# Altium schematic symbol library LIBRARY_SCH.SCHLIB: 713 symbols (part 3 of 6)
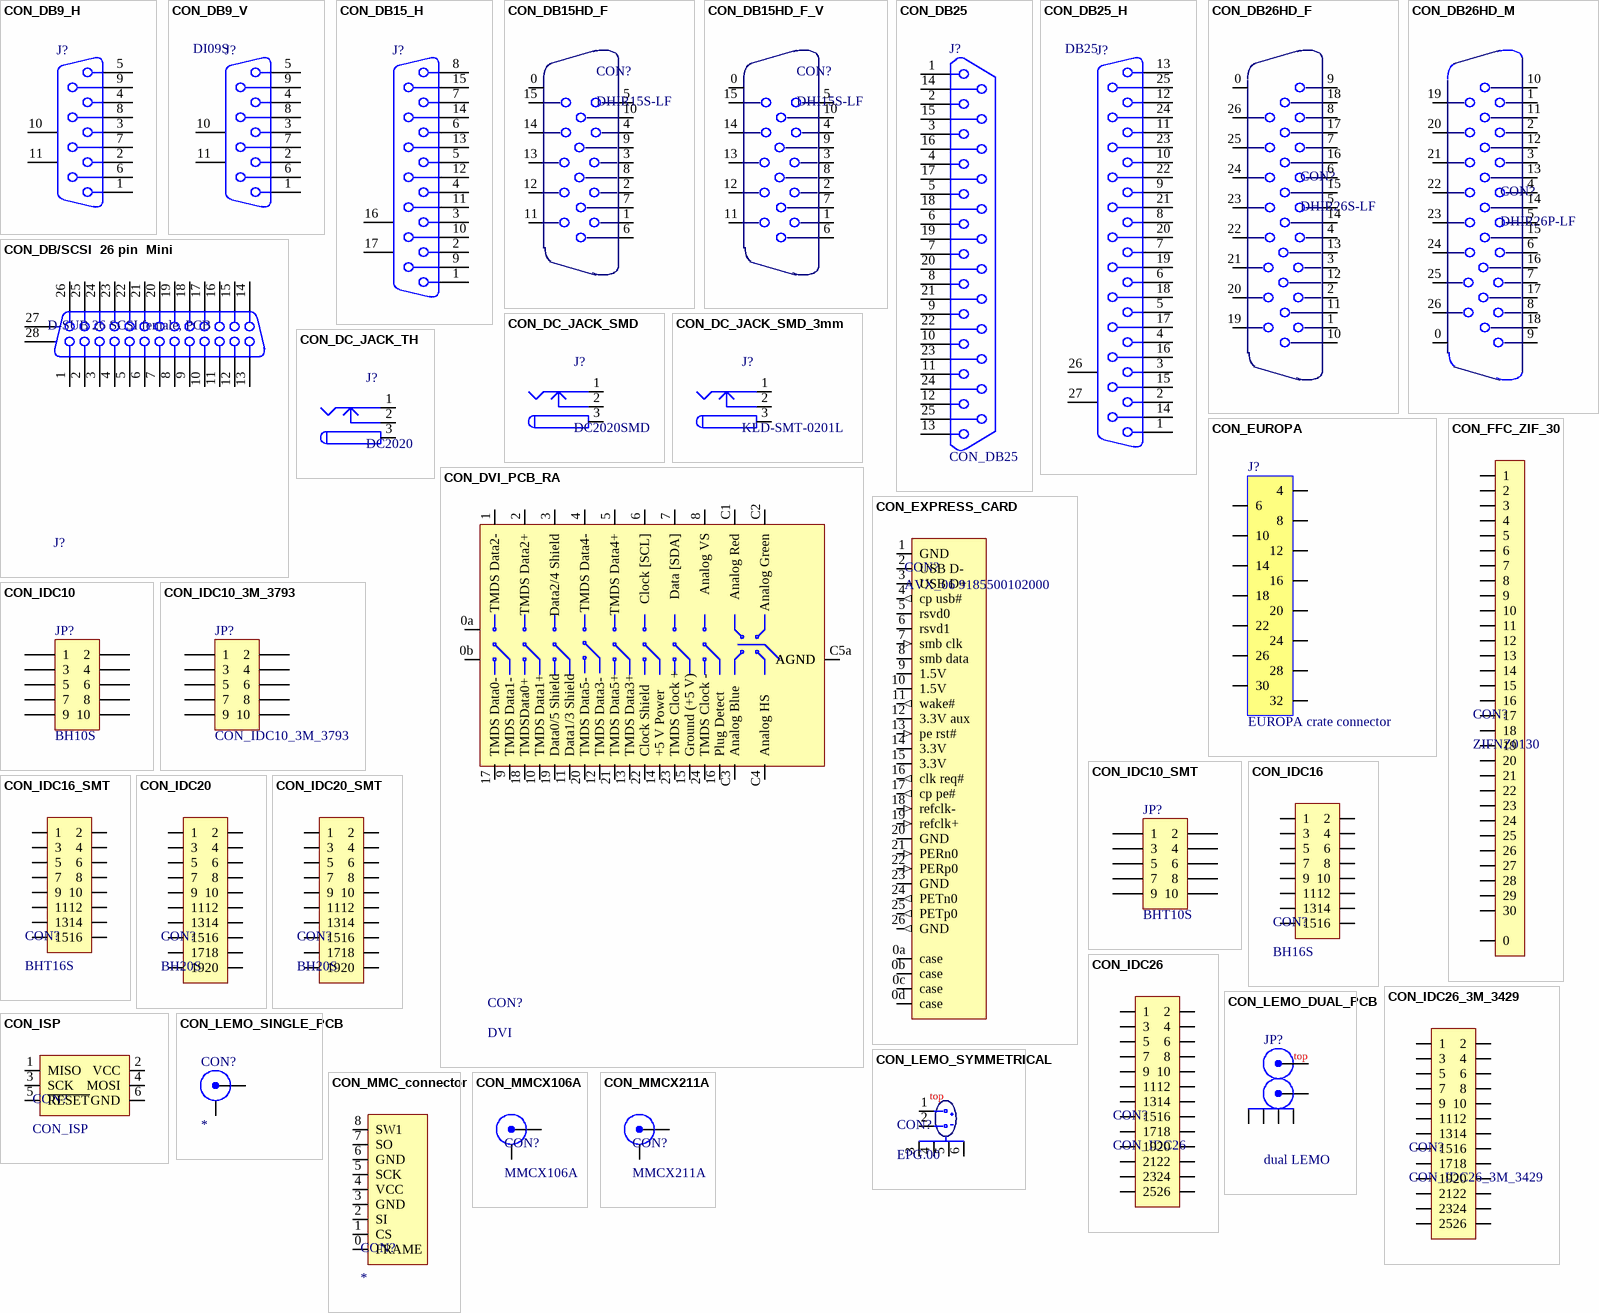
[diagram p40: symbols CON_DB9_H to CON_MMCX211A]

## CON_IDC20
designator CON?, comment BH20S
Maritex BH20S
footprint IDC_20_male (IDC 2x10 PCB male connector)
pins: 1, 2, 3, 4, 5, 6, 7, 8, 9, 10, 11, 12, 13, 14, 15, 16, 17, 18, 19, 20

## CON_IDC20_SMT
designator CON?, comment BH20S
Maritex BH20S
footprint BHT20S (Footprint not found)
pins: 1, 2, 3, 4, 5, 6, 7, 8, 9, 10, 11, 12, 13, 14, 15, 16, 17, 18, 19, 20

## CON_IDC26
designator CON?
Maritex BH26S
footprint IDC_26_male (IDC 2x13 PCB male connector)
pins: 1, 2, 3, 4, 5, 6, 7, 8, 9, 10, 11, 12, 13, 14, 15, 16, 17, 18, 19, 20, 21, 22, 23, 24, 25, 26

## CON_IDC26_3M_3429
designator CON?
26 pin Wall header
footprint IDC26_3M_3429
pins: 1, 2, 3, 4, 5, 6, 7, 8, 9, 10, 11, 12, 13, 14, 15, 16, 17, 18, 19, 20, 21, 22, 23, 24, 25, 26

## CON_ISP
designator CON?
footprint HEADER3x2
footprint PBTD6S
pins: 1 MISO, 2 VCC, 3 SCK, 4 MOSI, 5 ~{RESET}, 6 GND

## CON_LEMO_DUAL_PCB
designator JP?, comment dual LEMO
Dual PCB Lemo Connector; Text Field1: Lemo
footprint LEMO_DUAL_PCB
pins: 1, 2, 3, 4, 5, 6
2 alternate drawings of the same symbol
text: top

## CON_LEMO_SINGLE_PCB
designator CON?
Single PCB Lemo Connector; Text Field1: Lemo
footprint LEMO_SINGLE_PCB
footprint LEMO_VERTICAL_PCB
pins: 1, 2a 2, 2b 2 hidden, 2c 2 hidden, 2d 2 hidden
2 alternate drawings of the same symbol

## CON_LEMO_SYMMETRICAL
designator CON?, comment EPG.00
footprint LEMO_SYM_PCB
pins: 1, 2, 3, 4, 5, 6
text: top

## CON_MMC_connector
designator CON?
footprint MMC_CARD-MMCE715B (MMC card socket Maritex)
footprint MMC_FLS007-2323 (MMC card conenctor Yamaichi)
pins: 0 FRAME, 1 CS, 2 SI, 3 GND, 4 VCC, 5 SCK, 6 GND, 7 SO, 8 SW1

## CON_MMCX106A
designator CON?, comment MMCX106A
RF coax conenctor (Maritex)
footprint CON_MMCX106A (RF coax connector)
pins: 1, 2a 2, 2b 2, 2c 2, 2d 2

## CON_MMCX211A
designator CON?, comment MMCX211A
RF coax conenctor (Maritex)
footprint CON_MMCX211A
pins: 1, 2a 2, 2b 2, 2c 2, 2d 2

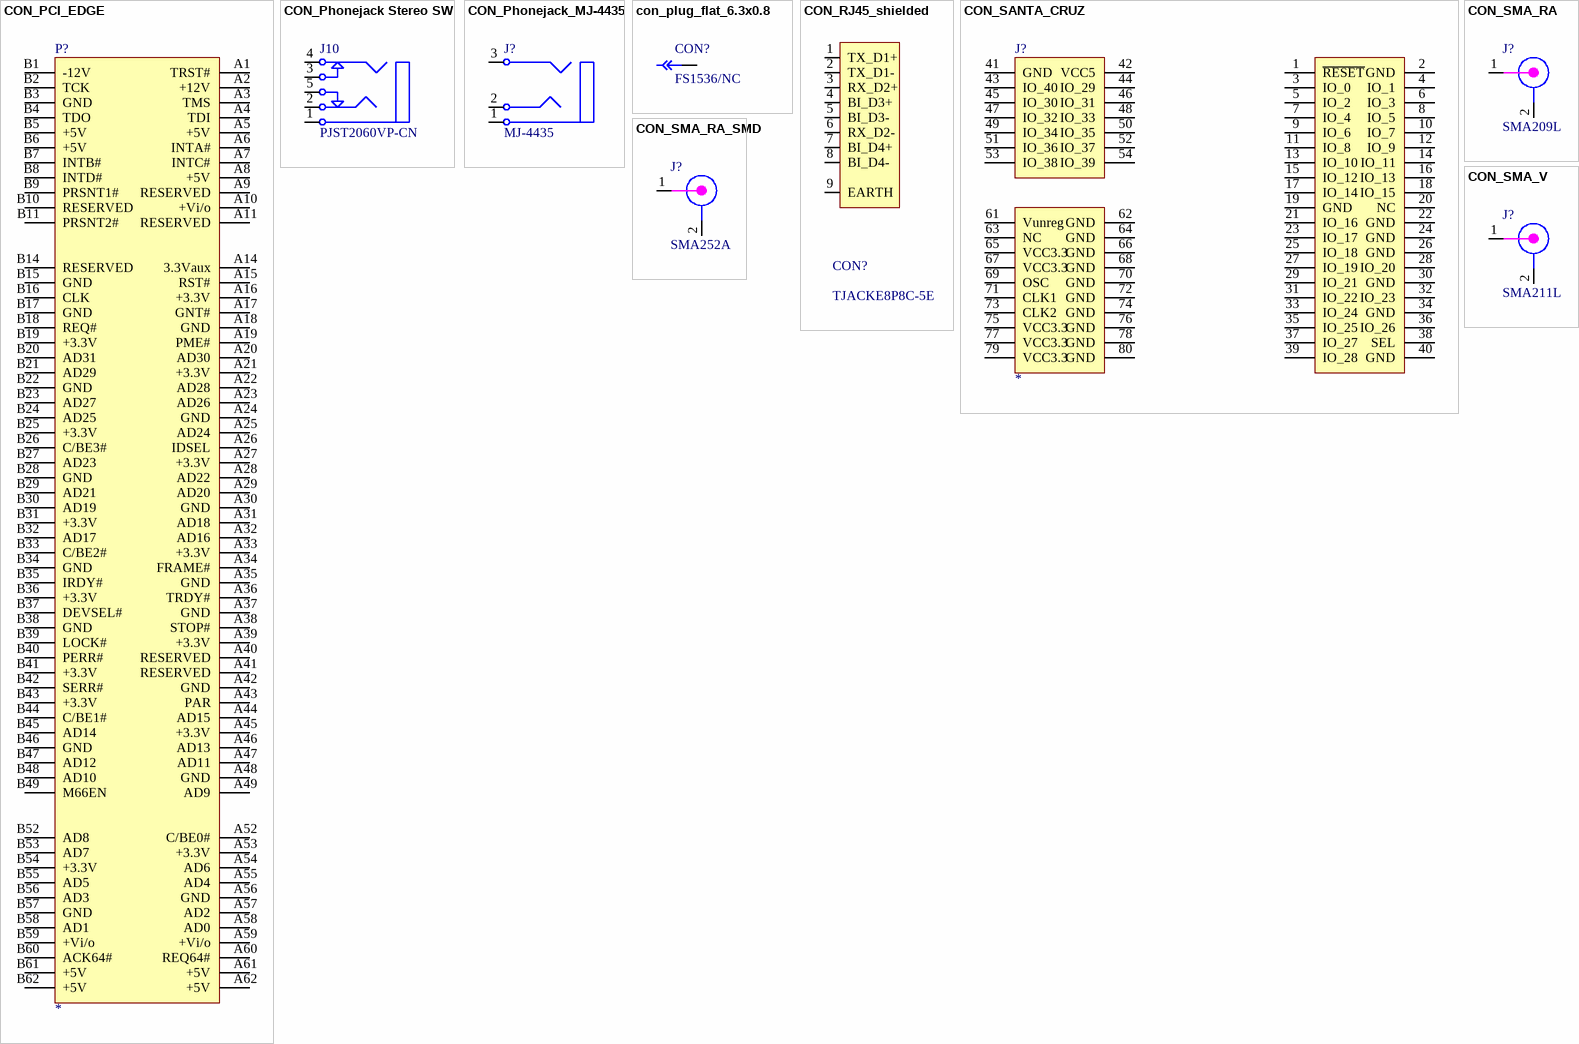
[diagram p14: symbols CON_PCI_EDGE to CON_SMA_V]

## CON_PCI_EDGE
designator P?
footprint PCI3V32BIT
footprint PCI_CON
pins: A1 TRST#, A2 +12V, A3 TMS, A4 TDI, A5 +5V, A6 INTA#, A7 INTC#, A8 +5V, A9 RESERVED, A10 +Vi/o, A11 RESERVED, A14 3.3Vaux, A15 RST#, A16 +3.3V, A17 GNT#, A18 GND, A19 PME#, A20 AD30, A21 +3.3V, A22 AD28, A23 AD26, A24 GND, A25 AD24, A26 IDSEL, A27 +3.3V, A28 AD22, A29 AD20, A30 GND, A31 AD18, A32 AD16, A33 +3.3V, A34 FRAME#, A35 GND, A36 TRDY#, A37 GND, A38 STOP#, A39 +3.3V, A40 RESERVED, A41 RESERVED, A42 GND, A43 PAR, A44 AD15, A45 +3.3V, A46 AD13, A47 AD11, A48 GND, A49 AD9, A52 C/BE0#, A53 +3.3V, A54 AD6, A55 AD4, A56 GND, A57 AD2, A58 AD0, A59 +Vi/o, A60 REQ64#, A61 +5V, A62 +5V, B1 -12V, B2 TCK, B3 GND, B4 TDO, B5 +5V, B6 +5V, B7 INTB#, B8 INTD#, B9 PRSNT1#, B10 RESERVED, B11 PRSNT2#, B14 RESERVED, B15 GND, B16 CLK, B17 GND, B18 REQ#, B19 +3.3V, B20 AD31, B21 AD29, B22 GND, B23 AD27, B24 AD25, B25 +3.3V, B26 C/BE3#, B27 AD23, B28 GND, B29 AD21, B30 AD19, B31 +3.3V, B32 AD17, B33 C/BE2#, B34 GND, B35 IRDY#, B36 +3.3V, B37 DEVSEL#, B38 GND, B39 LOCK#, B40 PERR#, B41 +3.3V, B42 SERR#, B43 +3.3V, B44 C/BE1#, B45 AD14, B46 GND, B47 AD12, B48 AD10, B49 M66EN, B52 AD8, B53 AD7, B54 +3.3V, B55 AD5, B56 AD3, B57 GND, B58 AD1, B59 +Vi/o, B60 ACK64#, B61 +5V, B62 +5V
2 alternate drawings of the same symbol

## CON_Phonejack Stereo SW
designator J10, comment PJST2060VP-CN
3-Conductor Jack with 2 break contacts (normals) and 2 auxiliary make contacts; Revision 1: 17-Jul-2002: Re-released for DXP Platform.; Revision 2: 17-Dec-2003: PCB Footprint replaced.; Published: 5-Jan-2004; Datasheet: Latest Revision: 07-Mar-2000; Publisher: Altium Limited
footprint ST-3150-5N (Connector; Stereo Jack, 3.5mm, 5 Position)
signal-integrity model Connector
pins: 1, 1A, 1B, 2, 2A, 2B, 3, 3A, 3B, 4, 4A, 4B, 5, 5A, 5B

## CON_Phonejack_MJ-4435
designator J?, comment MJ-4435
3-Conductor Jack (Maritex); Revision 1: 17-Jul-2002: Re-released for DXP Platform.; Revision 2: 17-Dec-2003: PCB Footprint replaced.; Published: 5-Jan-2004; Datasheet: Latest Revision: 07-Mar-2000; Publisher: Altium Limited
footprint CON_MJ-4435 (stereo jack)
pins: 1, 1A, 2, 2A, 3, 3A

## con_plug_flat_6.3x0.8
designator CON?, comment FS1536/NC
flat connector 6.3x8mm (TME)
footprint con_plug_flat_6.3x0.8
pins: 1 GND, 1a GND

## CON_RJ45_shielded
designator CON?, comment TJACKE8P8C-5E
RJ 45 connector (Maritex)
footprint TJACKE8P8C-5E
pins: 1 TX_D1+, 2 TX_D1-, 3 RX_D2+, 4 BI_D3+, 5 BI_D3-, 6 RX_D2-, 7 BI_D4+, 8 BI_D4-, 9 EARTH, 9b 9, 9c 9, 9d 9

## CON_SANTA_CRUZ
designator J?
Altera Nios dev board connector
footprint santa_cruz
pins: 1 ~{RESET}, 2 GND, 3 IO_0, 4 IO_1, 5 IO_2, 6 IO_3, 7 IO_4, 8 IO_5, 9 IO_6, 10 IO_7, 11 IO_8, 12 IO_9, 13 IO_10, 14 IO_11, 15 IO_12, 16 IO_13, 17 IO_14, 18 IO_15, 19 GND, 20 NC, 21 IO_16, 22 GND, 23 IO_17, 24 GND, 25 IO_18, 26 GND, 27 IO_19, 28 IO_20, 29 IO_21, 30 GND, 31 IO_22, 32 IO_23, 33 IO_24, 34 GND, 35 IO_25, 36 IO_26, 37 IO_27, 38 SEL, 39 IO_28, 40 GND, 41 GND, 42 VCC5, 43 IO_40, 44 IO_29, 45 IO_30, 46 IO_31, 47 IO_32, 48 IO_33, 49 IO_34, 50 IO_35, 51 IO_36, 52 IO_37, 53 IO_38, 54 IO_39, 61 Vunreg, 62 GND, 63 NC, 64 GND, 65 VCC3.3, 66 GND, 67 VCC3.3, 68 GND, 69 OSC, 70 GND, 71 CLK1, 72 GND, 73 CLK2, 74 GND, 75 VCC3.3, 76 GND, 77 VCC3.3, 78 GND, 79 VCC3.3, 80 GND
2 alternate drawings of the same symbol

## CON_SMA_RA
designator J?, comment SMA209L
SMA (Maritex)
footprint SMA_RA (Footprint not found)
pins: 1, 2, 2a GND, 2b GND, 2c GND
2 alternate drawings of the same symbol

## CON_SMA_RA_SMD
designator J?, comment SMA252A
SMA (Maritex)
footprint SMA252A (Footprint not found)
pins: 1, 2, 2a GND, 2b GND, 2c GND
2 alternate drawings of the same symbol

## CON_SMA_V
designator J?, comment SMA211L
SMA (Maritex)
footprint SMA_V
pins: 1, 2, 2a GND, 2b GND, 2c GND
2 alternate drawings of the same symbol

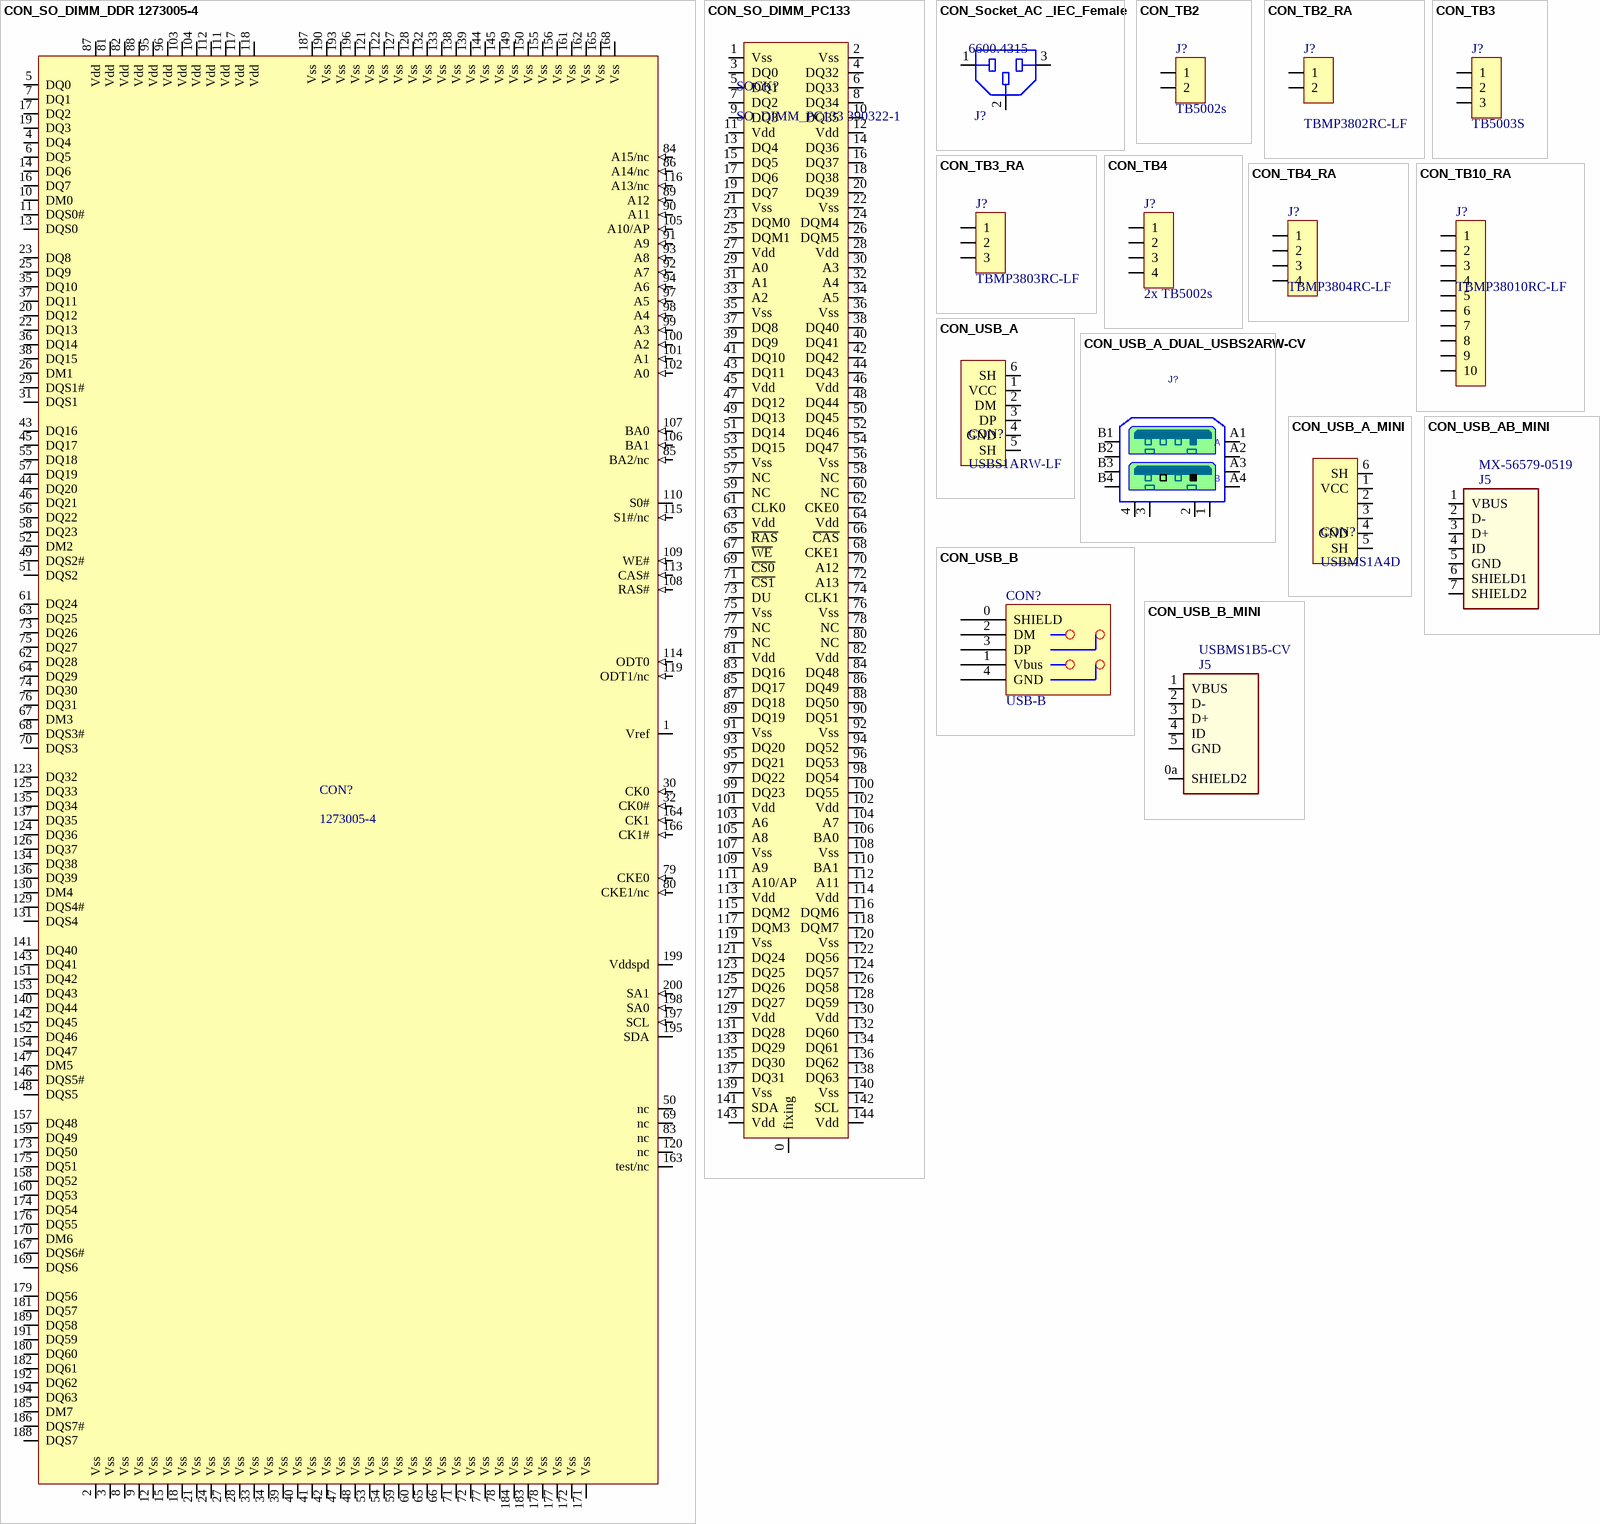
[diagram p15: symbols CON_SO_DIMM_DDR 1273005-4 to CON_USB_B_MINI]

## CON_SO_DIMM_DDR 1273005-4
designator CON?, comment 1273005-4
pins: 1 Vref (power), 2 Vss (power), 3 Vss (power), 4 DQ4 (io), 5 DQ0 (io), 6 DQ5 (io), 7 DQ1 (io), 8 Vss (power), 9 Vss (power), 10 DM0 (io), 11 DQS0# (io), 12 Vss (power), 13 DQS0 (io), 14 DQ6 (io), 15 Vss (power), 16 DQ7 (io), 17 DQ2 (io), 18 Vss (power), 19 DQ3 (io), 20 DQ12 (io), 21 Vss (power), 22 DQ13 (io), 23 DQ8 (io), 24 Vss (power), 25 DQ9 (io), 26 DM1 (io), 27 Vss (power), 28 Vss (power), 29 DQS1# (io), 30 CK0 (in), 31 DQS1 (io), 32 CK0# (in), 33 Vss (power), 34 Vss (power), 35 DQ10 (io), 36 DQ14 (io), 37 DQ11 (io), 38 DQ15 (io), 39 Vss (power), 40 Vss (power), 41 Vss (power), 42 Vss (power), 43 DQ16 (io), 44 DQ20 (io), 45 DQ17 (io), 46 DQ21 (io), 47 Vss (power), 48 Vss (power), 49 DQS2# (io), 50 nc, 51 DQS2 (io), 52 DM2 (io), 53 Vss (power), 54 Vss (power), 55 DQ18 (io), 56 DQ22 (io), 57 DQ19 (io), 58 DQ23 (io), 59 Vss (power), 60 Vss (power), 61 DQ24 (io), 62 DQ28 (io), 63 DQ25 (io), 64 DQ29 (io), 65 Vss (power), 66 Vss (power), 67 DM3 (io), 68 DQS3# (io), 69 nc, 70 DQS3 (io), 71 Vss (power), 72 Vss (power), 73 DQ26 (io), 74 DQ30 (io), 75 DQ27 (io), 76 DQ31 (io), 77 Vss (power), 78 Vss (power), 79 CKE0 (in), 80 CKE1/nc (in), 81 Vdd (power), 82 Vdd (power), 83 nc, 84 A15/nc (in), 85 BA2/nc (in), 86 A14/nc (in), 87 Vdd (power), 88 Vdd (power), 89 A12 (in), 90 A11 (in), 91 A9 (in), 92 A7 (in), 93 A8 (in), 94 A6 (in), 95 Vdd (power), 96 Vdd (power), 97 A5 (in), 98 A4 (in), 99 A3 (in), 100 A2 (in), 101 A1 (in), 102 A0 (in), 103 Vdd (power), 104 Vdd (power), 105 A10/AP (in), 106 BA1 (in), 107 BA0 (in), 108 RAS# (in), 109 WE# (in), 110 S0# (io), 111 Vdd (power), 112 Vdd (power), 113 CAS# (in), 114 ODT0 (in), 115 S1#/nc (in), 116 A13/nc (in), 117 Vdd (power), 118 Vdd (power), 119 ODT1/nc (in), 120 nc, 121 Vss (power), 122 Vss (power), 123 DQ32 (io), 124 DQ36 (io), 125 DQ33 (io), 126 DQ37 (io), 127 Vss (power), 128 Vss (power), 129 DQS4# (io), 130 DM4 (io), 131 DQS4 (io), 132 Vss (power), 133 Vss (power), 134 DQ38 (io), 135 DQ34 (io), 136 DQ39 (io), 137 DQ35 (io), 138 Vss (power), 139 Vss (power), 140 DQ44 (io), 141 DQ40 (io), 142 DQ45 (io), 143 DQ41 (io), 144 Vss (power), 145 Vss (power), 146 DQS5# (io), 147 DM5 (io), 148 DQS5 (io), 149 Vss (power), 150 Vss (power), 151 DQ42 (io), 152 DQ46 (io), 153 DQ43 (io), 154 DQ47 (io), 155 Vss (power), 156 Vss (power), 157 DQ48 (io), 158 DQ52 (io), 159 DQ49 (io), 160 DQ53 (io), 161 Vss (power), 162 Vss (power), 163 test/nc, 164 CK1 (in), 165 Vss (power), 166 CK1# (in), 167 DQS6# (io), 168 Vss (power), 169 DQS6 (io), 170 DM6 (io), 171 Vss (power), 172 Vss (power), 173 DQ50 (io), 174 DQ54 (io), 175 DQ51 (io), 176 DQ55 (io), 177 Vss (power), 178 Vss (power), 179 DQ56 (io), 180 DQ60 (io), 181 DQ57 (io), 182 DQ61 (io), 183 Vss (power), 184 Vss (power), 185 DM7 (io), 186 DQS7# (io), 187 Vss (power), 188 DQS7 (io), 189 DQ58 (io), 190 Vss (power), 191 DQ59 (io), 192 DQ62 (io), 193 Vss (power), 194 DQ63 (io), 195 SDA (io), 196 Vss (power), 197 SCL (in), 198 SA0 (in), 199 Vddspd (power), 200 SA1 (in)

## CON_SO_DIMM_PC133
designator SOCK?, comment SO_DIMM_PC133 390322-1
SO-DIMM SDRAM memory socket, high, right nagle
footprint SO_DIMM_AMP_3V (SO dimm SMT cosket 3.3V version AMP: 353871)
pins: 0 fixing, 1 Vss, 2 Vss, 3 DQ0, 4 DQ32, 5 DQ1, 6 DQ33, 7 DQ2, 8 DQ34, 9 DQ3, 10 DQ35, 11 Vdd, 12 Vdd, 13 DQ4, 14 DQ36, 15 DQ5, 16 DQ37, 17 DQ6, 18 DQ38, 19 DQ7, 20 DQ39, 21 Vss, 22 Vss, 23 DQM0, 24 DQM4, 25 DQM1, 26 DQM5, 27 Vdd, 28 Vdd, 29 A0, 30 A3, 31 A1, 32 A4, 33 A2, 34 A5, 35 Vss, 36 Vss, 37 DQ8, 38 DQ40, 39 DQ9, 40 DQ41, 41 DQ10, 42 DQ42, 43 DQ11, 44 DQ43, 45 Vdd, 46 Vdd, 47 DQ12, 48 DQ44, 49 DQ13, 50 DQ45, 51 DQ14, 52 DQ46, 53 DQ15, 54 DQ47, 55 Vss, 56 Vss, 57 NC, 58 NC, 59 NC, 60 NC, 61 CLK0, 62 CKE0, 63 Vdd, 64 Vdd, 65 ~{RAS}, 66 ~{CAS}, 67 ~{WE}, 68 CKE1, 69 ~{CS0}, 70 A12, 71 ~{CS1}, 72 A13, 73 DU, 74 CLK1, 75 Vss, 76 Vss, 77 NC, 78 NC, 79 NC, 80 NC, 81 Vdd, 82 Vdd, 83 DQ16, 84 DQ48, 85 DQ17, 86 DQ49, 87 DQ18, 88 DQ50, 89 DQ19, 90 DQ51, 91 Vss, 92 Vss, 93 DQ20, 94 DQ52, 95 DQ21, 96 DQ53, 97 DQ22, 98 DQ54, 99 DQ23, 100 DQ55, 101 Vdd, 102 Vdd, 103 A6, 104 A7, 105 A8, 106 BA0, 107 Vss, 108 Vss, 109 A9, 110 BA1, 111 A10/AP, 112 A11, 113 Vdd, 114 Vdd, 115 DQM2, 116 DQM6, 117 DQM3, 118 DQM7, 119 Vss, 120 Vss, 121 DQ24, 122 DQ56, 123 DQ25, 124 DQ57, 125 DQ26, 126 DQ58, 127 DQ27, 128 DQ59, 129 Vdd, 130 Vdd, 131 DQ28, 132 DQ60, 133 DQ29, 134 DQ61, 135 DQ30, 136 DQ62, 137 DQ31, 138 DQ63, 139 Vss, 140 Vss, 141 SDA, 142 SCL, 143 Vdd, 144 Vdd

## CON_Socket_AC _IEC_Female
designator J?, comment 6600.4315
Female AC socket; Revision: 17-Jul-2002: Re-released for DXP Platform.; Publisher: Altium Limited
footprint socket_IEC_PXD59B/15/63
pins: 1 A, 1a1 A, 1a2 A, 1a3 A, 1a4 A, 1a5 A, 1a6 A, 1a7 A, 2 GND, 2a1 GND, 2a2 GND, 2a3 GND, 2a4 GND, 2a5 GND, 2a6 GND, 2a7 GND, 3 B, 3a1 GND, 3a2 GND, 3a3 GND, 3a4 GND, 3a5 GND, 3a6 GND, 3a7 GND

## CON_TB2
designator J?, comment TB5002s
Terminal Block
footprint tb7502s (2x terminal blocks 7.5mm 16A (Maritex))
footprint tb5002s (2x terminal block (16A,250V) 5mm (maritex))
footprint tbx3502s (2x terminal blocks 3.5mm, 9A, 130V (Maritex))
pins: 1, 2
2 alternate drawings of the same symbol

## CON_TB2_RA
designator J?, comment TBMP3802RC-LF
Terminal Block
footprint TBMP3802RC-LF
pins: 1, 2
2 alternate drawings of the same symbol

## CON_TB3
designator J?, comment TB5003S
Terminal Block
footprint tb7503s (3x terminal block 7.55mm 16A (Maritex))
footprint tb5003s (3x terminal block (16A,250V) 5mm (maritex))
footprint tbx3503s (2x terminal blocks 3.5mm, 9A, 130V (Maritex))
pins: 1, 2, 3
2 alternate drawings of the same symbol

## CON_TB3_RA
designator J?, comment TBMP3803RC-LF
Terminal Block
footprint TBMP3803RC-LF
pins: 1, 2, 3
2 alternate drawings of the same symbol

## CON_TB4
designator J?, comment 2x TB5002s
terminal block
footprint DUAL_TB7502 (4x terminal blocks 7.5mm 16A (Maritex))
footprint Dual_TBX3502S (4x terminal blocks 3.5mm, 9A, 130V (Maritex))
footprint Dual_TB5002S (4x terminal block (16A,250V) 5mm (maritex))
pins: 1, 2, 3, 4
2 alternate drawings of the same symbol

## CON_TB4_RA
designator J?, comment TBMP3804RC-LF
Terminal Block
footprint TBMP3804RC-LF (Footprint not found)
pins: 1, 2, 3, 4
2 alternate drawings of the same symbol

## CON_TB10_RA
designator J?, comment TBMP38010RC-LF
Terminal Block
footprint TBMP38010RC-LF (Footprint not found)
pins: 1, 2, 3, 4, 5, 6, 7, 8, 9, 10
2 alternate drawings of the same symbol

## CON_USB_A
designator CON?, comment USBS1ARW-LF
USB connector A type (Maritex)
footprint USB_CON_A (Footprint not found)
footprint USB_CON_A_USBS1ASW-CV (Footprint not found)
pins: 1 VCC, 2 DM, 3 DP, 4 GND, 5 SH, 6 SH

## CON_USB_A_DUAL_USBS2ARW-CV
designator J?, comment USBS2ARW-CV  (value not drawn)
FAB: CYPRESS INDUSTRIES; REF: CCUSBA-32002-30X; DESIG: DUAL USB TYPE A RIGHT ANGLE; DEV: CON_USBDUAL72309; Right: 70; Bottom: 60
footprint CON_USBS2ARW-CV
pins: 1 BODY1, 2 BODY2, 3 BODY3, 4 BODY4, A1 VCC, A2 USBHMA, A3 USBHPA, A4 GND, B1 VCC, B2 USBHMB, B3 USBHPB, B4 GND
text: A; B

## CON_USB_A_MINI
designator CON?, comment USBMS1A4D
USB connector A type (Maritex)
footprint USBMS1A4D
pins: 1 VCC, 2 DM, 3 DP, 4 GND, 5 SH, 6 SH

## CON_USB_AB_MINI
designator J5, comment MX-56579-0519
USB mini AB connector; Part Number: 10133; Device: USB_Mini_AB
footprint USB_X-56579-0519 (mini USB-AB)
pins: 1 VBUS, 2 D-, 3 D+, 4 ID, 5 GND, 6 SHIELD1, 6a SHIELD1, 6b SHIELD1, 7 SHIELD2, 7a SHIELD2, 7b SHIELD2

## CON_USB_B
designator CON?, comment USB-B
USB connector B type (TME)
footprint MOLEX_USB_VERT
footprint USBB-G ((TME))
footprint USBB_EDGE ((TME))
footprint USB_VERT
pins: 0 SHIELD, 1 Vbus, 2 DM, 3 DP, 4 GND
2 alternate drawings of the same symbol

## CON_USB_B_MINI
designator J5, comment USBMS1B5-CV
USB mini B connector (Maritex); Part Number: 10133; Device: USB_Mini_AB
footprint USBMS1B5-CV (mini USB-AB (Maritex))
pins: 0a SHIELD2, 0b SHIELD2, 0c SHIELD2, 0d SHIELD2, 1 VBUS, 2 D-, 3 D+, 4 ID, 5 GND

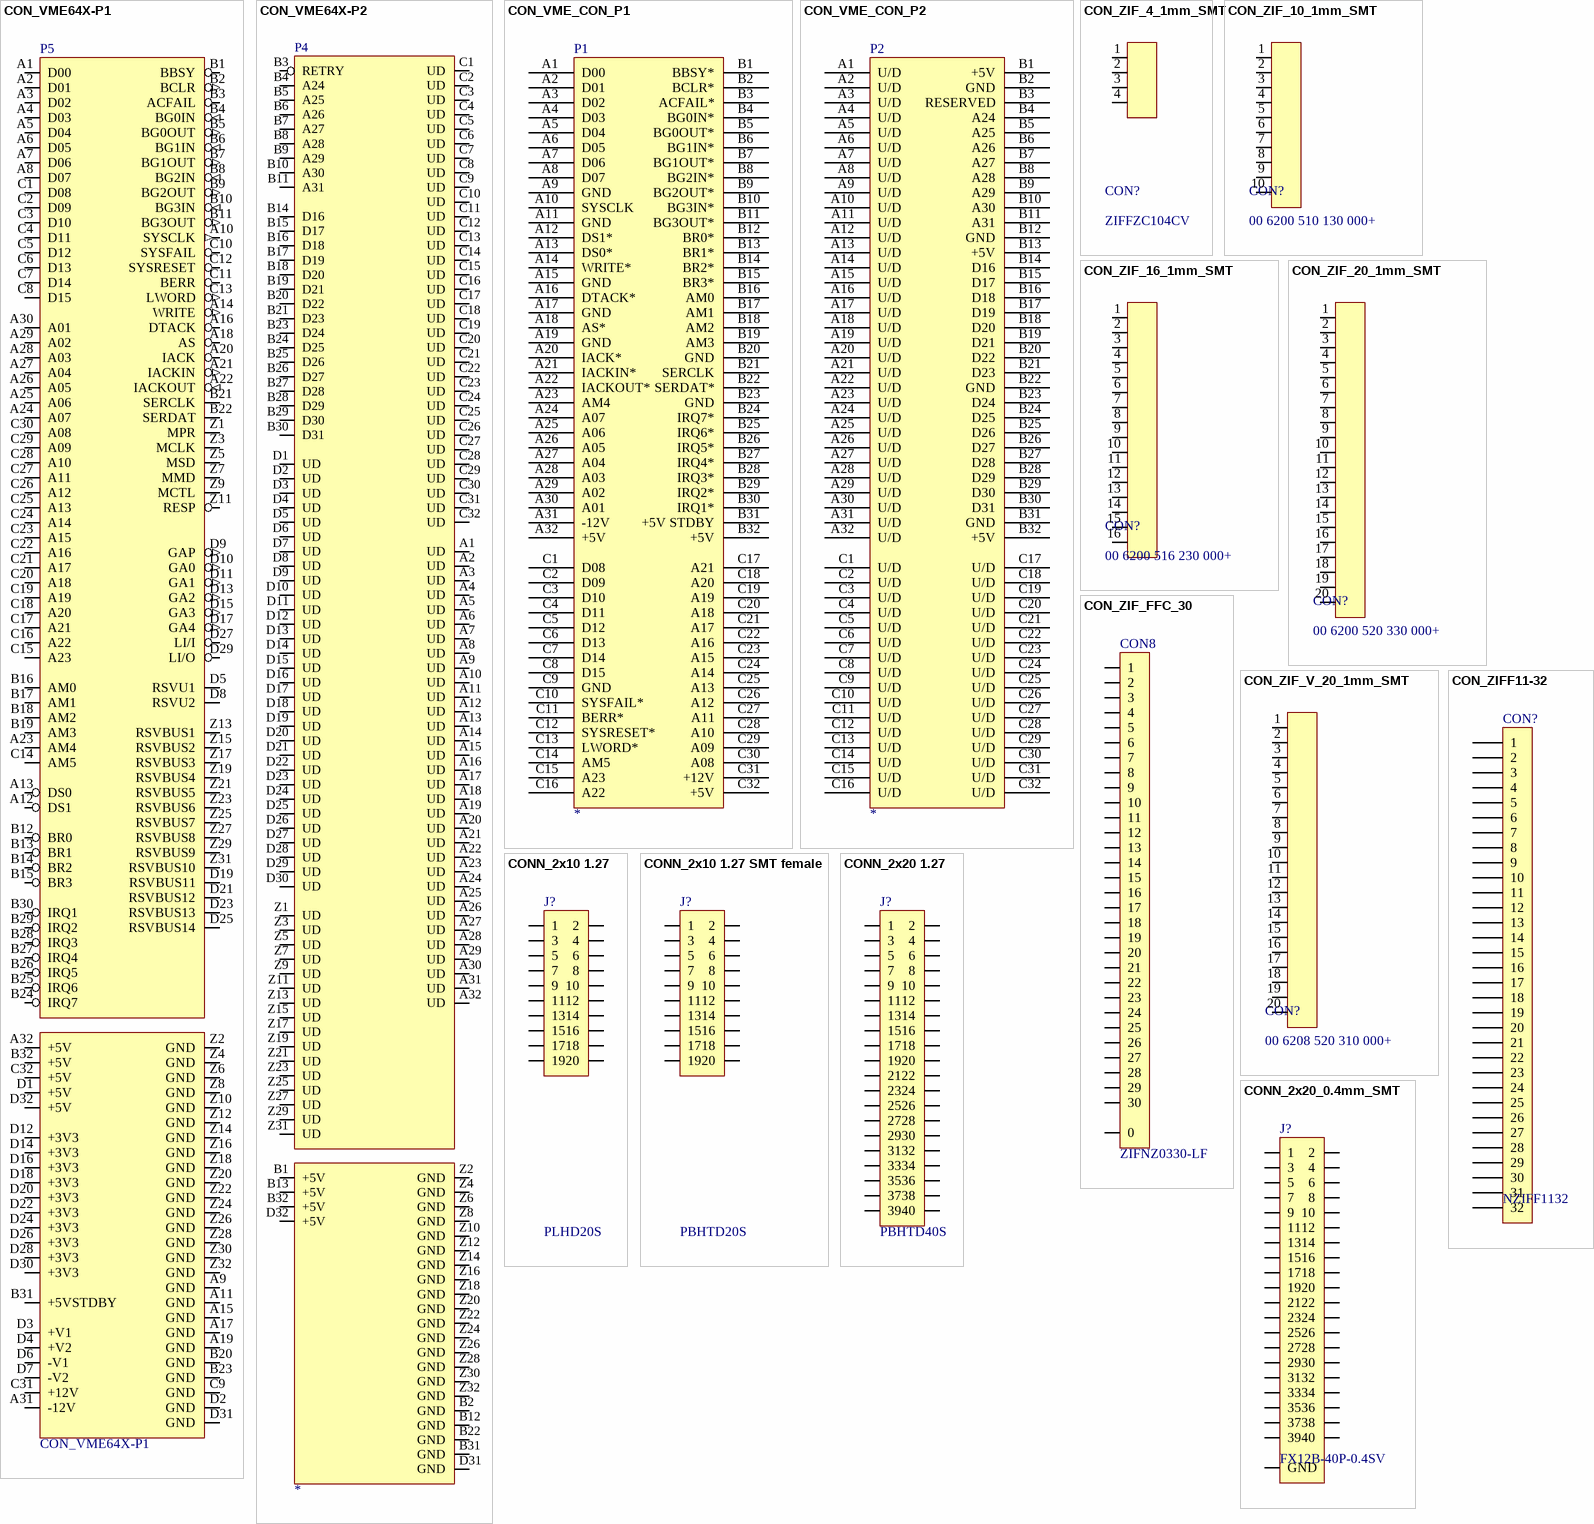
[diagram p16: symbols CON_VME64X-P1 to CONN_2x20_0.4mm_SMT]

## CON_VME64X-P1
designator P5
VME64X P1 connector on the backplane
footprint HARTING-0201-160-2101
pins: A1 D00 (io), A2 D01 (io), A3 D02 (io), A4 D03 (io), A5 D04 (io), A6 D05 (io), A7 D06 (io), A8 D07 (io), A9 GND (power), A10 SYSCLK (out), A11 GND (power), A12 DS1 (hiz), A13 DS0 (hiz), A14 WRITE (out), A15 GND (power), A16 DTACK (oc), A17 GND (power), A18 AS (hiz), A19 GND (power), A20 IACK (oc), A21 IACKIN (out), A22 IACKOUT (in), A23 AM4 (hiz), A24 A07 (hiz), A25 A06 (hiz), A26 A05 (hiz), A27 A04 (hiz), A28 A03 (hiz), A29 A02 (hiz), A30 A01 (hiz), A31 -12V (power), A32 +5V (power), B1 BBSY (oc), B2 BCLR (out), B3 ACFAIL (oc), B4 BG0IN (in), B5 BG0OUT (out), B6 BG1IN (in), B7 BG1OUT (out), B8 BG2IN (in), B9 BG2OUT (out), B10 BG3IN (in), B11 BG3OUT (out), B12 BR0 (oc), B13 BR1 (oc), B14 BR2 (oc), B15 BR3 (oc), B16 AM0 (hiz), B17 AM1 (hiz), B18 AM2 (hiz), B19 AM3 (hiz), B20 GND (power), B21 SERCLK, B22 SERDAT, B23 GND (power), B24 IRQ7 (oc), B25 IRQ6 (oc), B26 IRQ5 (oc), B27 IRQ4 (oc), B28 IRQ3 (oc), B29 IRQ2 (oc), B30 IRQ1 (oc), B31 +5VSTDBY (power), B32 +5V (power), C1 D08 (io), C2 D09 (io), C3 D10 (io), C4 D11 (io), C5 D12 (io), C6 D13 (io), C7 D14 (io), C8 D15 (io), C9 GND (power), C10 SYSFAIL (oc), C11 BERR (oc), C12 SYSRESET (oc), C13 LWORD (out), C14 AM5 (hiz), C15 A23 (hiz), C16 A22 (hiz), C17 A21 (hiz), C18 A20 (hiz), C19 A19 (hiz), C20 A18 (hiz), C21 A17 (hiz), C22 A16 (hiz), C23 A15 (hiz), C24 A14 (hiz), C25 A13 (hiz), C26 A12 (hiz), C27 A11 (hiz), C28 A10 (hiz), C29 A09 (hiz), C30 A08 (hiz), C31 +12V (power), C32 +5V (power), D1 +5V (power), D2 GND (power), D3 +V1 (power), D4 +V2 (power), D5 RSVU1, D6 -V1 (power), D7 -V2 (power), D8 RSVU2, D9 GAP (out), D10 GA0 (out), D11 GA1 (out), D12 +3V3 (power), D13 GA2 (out), D14 +3V3 (power), D15 GA3 (out), D16 +3V3 (power), D17 GA4 (out), D18 +3V3 (power), D19 RSVBUS11, D20 +3V3 (power), D21 RSVBUS12, D22 +3V3 (power), D23 RSVBUS13, D24 +3V3 (power), D25 RSVBUS14, D26 +3V3 (power), D27 LI/I (hiz), D28 +3V3 (power), D29 LI/O (hiz), D30 +3V3 (power), D31 GND (power), D32 +5V (power), Z1 MPR (hiz), Z2 GND (power), Z3 MCLK (hiz), Z4 GND (power), Z5 MSD (hiz), Z6 GND (power), Z7 MMD (hiz), Z8 GND (power), Z9 MCTL (hiz), Z10 GND (power), Z11 RESP (hiz), Z12 GND (power), Z13 RSVBUS1, Z14 GND (power), Z15 RSVBUS2, Z16 GND (power), Z17 RSVBUS3, Z18 GND (power), Z19 RSVBUS4, Z20 GND (power), Z21 RSVBUS5, Z22 GND (power), Z23 RSVBUS6, Z24 GND (power), Z25 RSVBUS7, Z26 GND (power), Z27 RSVBUS8, Z28 GND (power), Z29 RSVBUS9, Z30 GND (power), Z31 RSVBUS10, Z32 GND (power)

## CON_VME64X-P2
designator P4
P2 connector for VME64X board
footprint HARTING-0201-160-2101
footprint HARTING-0204-160-1101
pins: A1 UD, A2 UD, A3 UD, A4 UD, A5 UD, A6 UD, A7 UD, A8 UD, A9 UD, A10 UD, A11 UD, A12 UD, A13 UD, A14 UD, A15 UD, A16 UD, A17 UD, A18 UD, A19 UD, A20 UD, A21 UD, A22 UD, A23 UD, A24 UD, A25 UD, A26 UD, A27 UD, A28 UD, A29 UD, A30 UD, A31 UD, A32 UD, B1 +5V (power), B2 GND (power), B3 RETRY (power), B4 A24 (hiz), B5 A25 (hiz), B6 A26 (hiz), B7 A27 (hiz), B8 A28 (hiz), B9 A29 (hiz), B10 A30 (hiz), B11 A31 (hiz), B12 GND (power), B13 +5V (power), B14 D16 (hiz), B15 D17 (hiz), B16 D18 (hiz), B17 D19 (hiz), B18 D20 (hiz), B19 D21 (hiz), B20 D22 (hiz), B21 D23 (hiz), B22 GND (power), B23 D24 (hiz), B24 D25 (hiz), B25 D26 (hiz), B26 D27 (hiz), B27 D28 (hiz), B28 D29 (hiz), B29 D30 (hiz), B30 D31 (hiz), B31 GND (power), B32 +5V (power), C1 UD, C2 UD, C3 UD, C4 UD, C5 UD, C6 UD, C7 UD, C8 UD, C9 UD, C10 UD, C11 UD, C12 UD, C13 UD, C14 UD, C15 UD, C16 UD, C17 UD, C18 UD, C19 UD, C20 UD, C21 UD, C22 UD, C23 UD, C24 UD, C25 UD, C26 UD, C27 UD, C28 UD, C29 UD, C30 UD, C31 UD, C32 UD, D1 UD, D2 UD, D3 UD, D4 UD, D5 UD, D6 UD, D7 UD, D8 UD, D9 UD, D10 UD, D11 UD, D12 UD, D13 UD, D14 UD, D15 UD, D16 UD, D17 UD, D18 UD, D19 UD, D20 UD, D21 UD, D22 UD, D23 UD, D24 UD, D25 UD, D26 UD, D27 UD, D28 UD, D29 UD, D30 UD, D31 GND (power), D32 +5V (power), Z1 UD, Z2 GND, Z3 UD, Z4 GND, Z5 UD, Z6 GND, Z7 UD, Z8 GND, Z9 UD, Z10 GND, Z11 UD, Z12 GND, Z13 UD, Z14 GND, Z15 UD, Z16 GND, Z17 UD, Z18 GND, Z19 UD, Z20 GND, Z21 UD, Z22 GND, Z23 UD, Z24 GND, Z25 UD, Z26 GND, Z27 UD, Z28 GND, Z29 UD, Z30 GND, Z31 UD, Z32 GND

## CON_VME_CON_P1
designator P1
footprint CNVME96
pins: A1 D00, A2 D01, A3 D02, A4 D03, A5 D04, A6 D05, A7 D06, A8 D07, A9 GND, A10 SYSCLK, A11 GND, A12 DS1*, A13 DS0*, A14 WRITE*, A15 GND, A16 DTACK*, A17 GND, A18 AS*, A19 GND, A20 IACK*, A21 IACKIN*, A22 IACKOUT*, A23 AM4, A24 A07, A25 A06, A26 A05, A27 A04, A28 A03, A29 A02, A30 A01, A31 -12V, A32 +5V, B1 BBSY*, B2 BCLR*, B3 ACFAIL*, B4 BG0IN*, B5 BG0OUT*, B6 BG1IN*, B7 BG1OUT*, B8 BG2IN*, B9 BG2OUT*, B10 BG3IN*, B11 BG3OUT*, B12 BR0*, B13 BR1*, B14 BR2*, B15 BR3*, B16 AM0, B17 AM1, B18 AM2, B19 AM3, B20 GND, B21 SERCLK, B22 SERDAT*, B23 GND, B24 IRQ7*, B25 IRQ6*, B26 IRQ5*, B27 IRQ4*, B28 IRQ3*, B29 IRQ2*, B30 IRQ1*, B31 +5V STDBY, B32 +5V, C1 D08, C2 D09, C3 D10, C4 D11, C5 D12, C6 D13, C7 D14, C8 D15, C9 GND, C10 SYSFAIL*, C11 BERR*, C12 SYSRESET*, C13 LWORD*, C14 AM5, C15 A23, C16 A22, C17 A21, C18 A20, C19 A19, C20 A18, C21 A17, C22 A16, C23 A15, C24 A14, C25 A13, C26 A12, C27 A11, C28 A10, C29 A09, C30 A08, C31 +12V, C32 +5V
2 alternate drawings of the same symbol

## CON_VME_CON_P2
designator P2
footprint CNVME96
pins: A1 U/D, A2 U/D, A3 U/D, A4 U/D, A5 U/D, A6 U/D, A7 U/D, A8 U/D, A9 U/D, A10 U/D, A11 U/D, A12 U/D, A13 U/D, A14 U/D, A15 U/D, A16 U/D, A17 U/D, A18 U/D, A19 U/D, A20 U/D, A21 U/D, A22 U/D, A23 U/D, A24 U/D, A25 U/D, A26 U/D, A27 U/D, A28 U/D, A29 U/D, A30 U/D, A31 U/D, A32 U/D, B1 +5V, B2 GND, B3 RESERVED, B4 A24, B5 A25, B6 A26, B7 A27, B8 A28, B9 A29, B10 A30, B11 A31, B12 GND, B13 +5V, B14 D16, B15 D17, B16 D18, B17 D19, B18 D20, B19 D21, B20 D22, B21 D23, B22 GND, B23 D24, B24 D25, B25 D26, B26 D27, B27 D28, B28 D29, B29 D30, B30 D31, B31 GND, B32 +5V, C1 U/D, C2 U/D, C3 U/D, C4 U/D, C5 U/D, C6 U/D, C7 U/D, C8 U/D, C9 U/D, C10 U/D, C11 U/D, C12 U/D, C13 U/D, C14 U/D, C15 U/D, C16 U/D, C17 U/D, C18 U/D, C19 U/D, C20 U/D, C21 U/D, C22 U/D, C23 U/D, C24 U/D, C25 U/D, C26 U/D, C27 U/D, C28 U/D, C29 U/D, C30 U/D, C31 U/D, C32 U/D
2 alternate drawings of the same symbol

## CON_ZIF_4_1mm_SMT
designator CON?, comment ZIFFZC104CV
FFC ZIF 1mm conencteor  (maritex)
footprint ZIFFZC104CV
pins: 1, 2, 3, 4

## CON_ZIF_10_1mm_SMT
designator CON?, comment 00 6200 510 130 000+
Kyocera ZIF 1mm conencteor (Farnell)
footprint ZIF_10_Kyocera
footprint ZIF_10_Kyocera_mirrored
pins: 1, 2, 3, 4, 5, 6, 7, 8, 9, 10

## CON_ZIF_16_1mm_SMT
designator CON?, comment 00 6200 516 230 000+
Kyocera ZIF 1mm conencteor (Farnell)
footprint ZIF_20_Kyocera
footprint ZIF_16_kyocera_mirrored
pins: 1, 2, 3, 4, 5, 6, 7, 8, 9, 10, 11, 12, 13, 14, 15, 16

## CON_ZIF_20_1mm_SMT
designator CON?, comment 00 6200 520 330 000+
Kyocera ZIF 1mm conencteor (Farnell)
footprint ZIF_20_Kyocera
footprint ZIF_20_Kyocera_mirrored
pins: 1, 2, 3, 4, 5, 6, 7, 8, 9, 10, 11, 12, 13, 14, 15, 16, 17, 18, 19, 20

## CON_ZIF_FFC_30
designator CON8, comment ZIFNZ0330-LF
FFC cable connector (maritex)
footprint ZIFNZ0330-LF
footprint ZIFNZ0130
pins: 0, 1, 2, 3, 4, 5, 6, 7, 8, 9, 10, 11, 12, 13, 14, 15, 16, 17, 18, 19, 20, 21, 22, 23, 24, 25, 26, 27, 28, 29, 30

## CON_ZIF_V_20_1mm_SMT
designator CON?, comment 00 6208 520 310 000+
Kyocera ZIF 1mm conencteor (Farnell)
footprint ZIF_20_V_Kyocera_mirrored
footprint ZIF_20_V_Kyocera
pins: 1, 2, 3, 4, 5, 6, 7, 8, 9, 10, 11, 12, 13, 14, 15, 16, 17, 18, 19, 20

## CON_ZIFF11-32
designator CON?, comment NZIFF1132
Maritex  flat cable connector(cable: FFC1.00X32X60XC)
footprint NZIFF1132 (Maritex (cable: FFC1.00X32X60XC))
pins: 1, 2, 3, 4, 5, 6, 7, 8, 9, 10, 11, 12, 13, 14, 15, 16, 17, 18, 19, 20, 21, 22, 23, 24, 25, 26, 27, 28, 29, 30, 31, 32
2 alternate drawings of the same symbol

## CONN_2x10 1.27
designator J?, comment PLHD20S
1.27 mm dual row goldpin (Maritex)
footprint PLHD20S (1.27mm dual row pin grid)
footprint PLHTD20S-GC (SMT 1.27 mm dual goldpin)
pins: 1, 2, 3, 4, 5, 6, 7, 8, 9, 10, 11, 12, 13, 14, 15, 16, 17, 18, 19, 20
2 alternate drawings of the same symbol

## CONN_2x10 1.27 SMT female
designator J?, comment PBHTD20S
1.27 mm dual row goldpin (Maritex)
footprint PBHTD20S
footprint PBHTD20S_mirrored
pins: 1, 2, 3, 4, 5, 6, 7, 8, 9, 10, 11, 12, 13, 14, 15, 16, 17, 18, 19, 20
2 alternate drawings of the same symbol

## CONN_2x20 1.27
designator J?, comment PBHTD40S
1.27 mm dual row goldpin (Maritex)
footprint PLHD40S (1.27mm dual row pin grid)
footprint PLHTD40S (SMT 1.27 mm dual goldpin)
pins: 1, 2, 3, 4, 5, 6, 7, 8, 9, 10, 11, 12, 13, 14, 15, 16, 17, 18, 19, 20, 21, 22, 23, 24, 25, 26, 27, 28, 29, 30, 31, 32, 33, 34, 35, 36, 37, 38, 39, 40
2 alternate drawings of the same symbol

## CONN_2x20_0.4mm_SMT
designator J?, comment FX12B-40P-0.4SV
footprint CON_FX12B-40P-0.4SV
footprint CON_FX12B-40S-0.4SV
pins: 1, 2, 3, 4, 5, 6, 7, 8, 9, 10, 11, 12, 13, 14, 15, 16, 17, 18, 19, 20, 21, 22, 23, 24, 25, 26, 27, 28, 29, 30, 31, 32, 33, 34, 35, 36, 37, 38, 39, 40, 41 GND, 42, 43, 44, 45, 46
2 alternate drawings of the same symbol

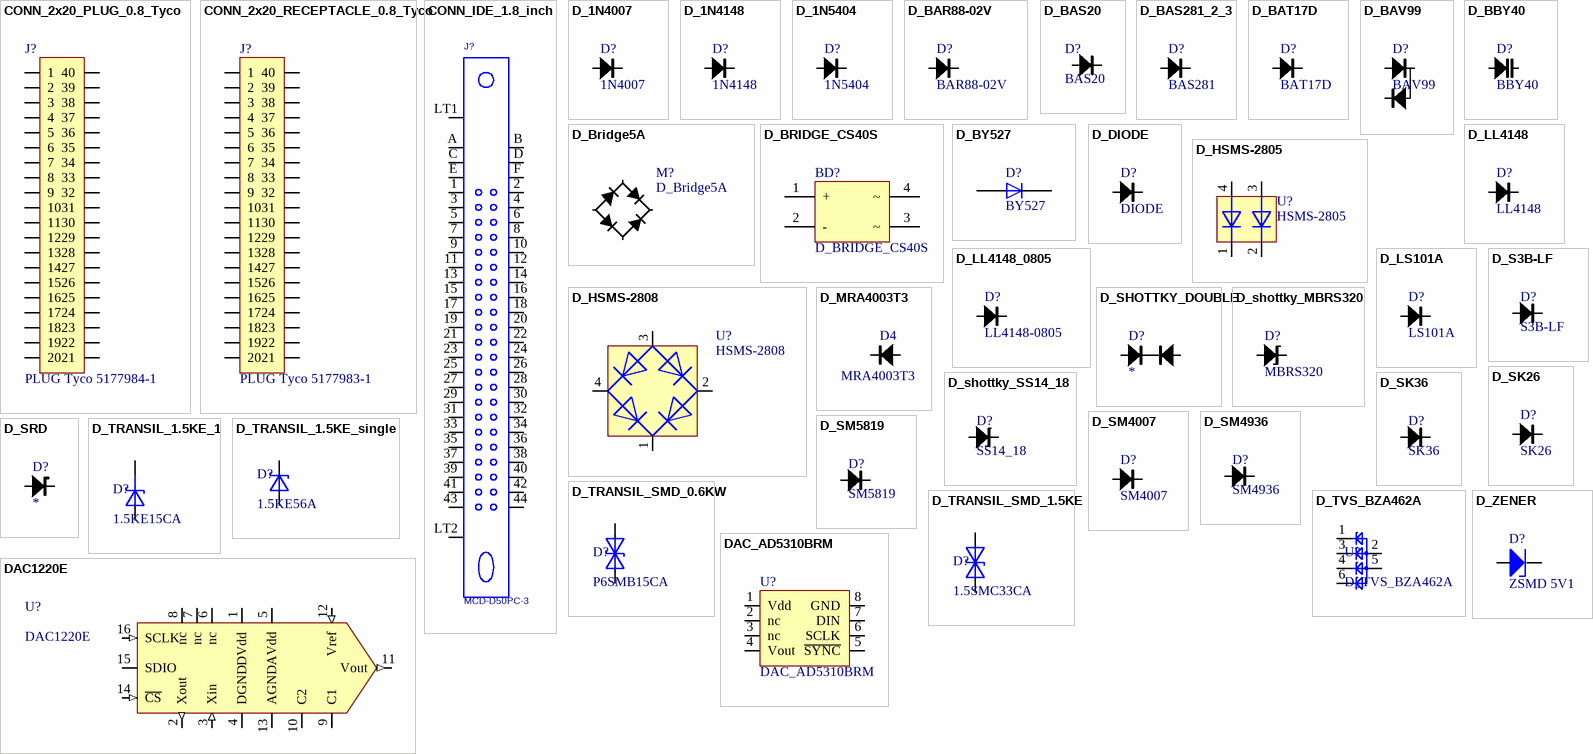
[diagram p17: symbols CONN_2x20_PLUG_0.8_Tyco to DAC_AD5310BRM]

## CONN_2x20_PLUG_0.8_Tyco
designator J?, comment PLUG Tyco 5177984-1
0.8 mm dual row
footprint TYCO_5177984-1 (Footprint not found)
pins: 1, 2, 3, 4, 5, 6, 7, 8, 9, 10, 11, 12, 13, 14, 15, 16, 17, 18, 19, 20, 21, 22, 23, 24, 25, 26, 27, 28, 29, 30, 31, 32, 33, 34, 35, 36, 37, 38, 39, 40
2 alternate drawings of the same symbol

## CONN_2x20_RECEPTACLE_0.8_Tyco
designator J?, comment PLUG Tyco 5177983-1
0.8 mm dual row
footprint TYCO_5177983-1
pins: 1, 2, 3, 4, 5, 6, 7, 8, 9, 10, 11, 12, 13, 14, 15, 16, 17, 18, 19, 20, 21, 22, 23, 24, 25, 26, 27, 28, 29, 30, 31, 32, 33, 34, 35, 36, 37, 38, 39, 40
2 alternate drawings of the same symbol

## CONN_IDE_1.8_inch
designator J?, comment MCD-D50PC-3
Fujikura HDD 1.8 " PCB conenctor; FAB: DDK; GPAO_ART: 05600026127AA; GPAO_FAM: X; AREA: 473; PSPICEONLY: False; FUNCTION: Connecteur; REF: MCD-D50PC-X; LIB_REV: A; DEV: JMS_MCD-50PTS_01; Right: 30; Bottom: 360; NO_SWAP_PIN: False; NO_SWAP_GATE_EXT: False; STUDIEL1: x; STUDIEL2: x; HEIGHT: 4.18; MANUFACTURER: DDK; PACKAGE: CON-CMS-044-0.635-M-C; NO_SWAP_GATE: False; POWER: X; NO_EQU: False; DATE_COMP: 2005/05/30; VOLTAGE_MAX: X; TOLERANCE: X
footprint ATA_MCD-D50PC-3 (Footprint not found)
pins: 1, 2, 3, 4, 5, 6, 7, 8, 9, 10, 11, 12, 13, 14, 15, 16, 17, 18, 19, 20, 21, 22, 23, 24, 25, 26, 27, 28, 29, 30, 31, 32, 33, 34, 35, 36, 37, 38, 39, 40, 41, 42, 43, 44, A, B, C, D, E, F, LT1, LT2

## D_1N4007
designator D?, comment 1N4007
Diode
footprint Diode0.4
pins: A, K
2 alternate drawings of the same symbol

## D_1N4148
designator D?, comment 1N4148
Diode
footprint Diode0.4
pins: A, K
2 alternate drawings of the same symbol

## D_1N5404
designator D?, comment 1N5404
Diode
footprint DIODE0.7
pins: A, K
2 alternate drawings of the same symbol

## D_BAR88-02V
designator D?, comment BAR88-02V
PIN Diode
footprint SOD523
pins: A, K
2 alternate drawings of the same symbol

## D_BAS20
designator D?, comment BAS20
100mA, 200V, 50ns, SOT23
footprint SOT-23
pins: 1 A, 3 K

## D_BAS281_2_3
designator D?, comment BAS281
Diode
footprint SOD80
pins: A, K
2 alternate drawings of the same symbol

## D_BAT17D
designator D?, comment BAT17D
shottky Diode
footprint SOT-23
pins: 1 A, 3 K
2 alternate drawings of the same symbol

## D_BAV99
designator D?, comment BAV99
dual switching diode 210mA, 70V
footprint SOT-23
pins: 1 A, 2 K, 3 AK
2 alternate drawings of the same symbol

## D_BBY40
designator D?, comment BBY40
Varicap Diode (TME)
footprint SOT-23
pins: 1 A, 3 K
2 alternate drawings of the same symbol

## D_Bridge5A
designator M?
Mostek prostowniczy
footprint BRIDGE5A
footprint MOSTEK_CIR
pins: 1 V+, 2 AC, 3 AC, 4 V-
2 alternate drawings of the same symbol

## D_BRIDGE_CS40S
designator BD?
Rectification bridge
footprint CS40S
pins: 1 +, 2 -, 3 ~, 4 ~
2 alternate drawings of the same symbol

## D_BY527
designator D?, comment BY527
footprint by527
pins: 1, 2
2 alternate drawings of the same symbol

## D_DIODE
designator D?, comment DIODE
footprint DIODE0.7
footprint Diode0.4
footprint SOD80
footprint 7227d
pins: A, K
2 alternate drawings of the same symbol

## D_HSMS-2805
designator U?, comment HSMS-2805
footprint SOT143B
pins: 1, 2, 3, 4
2 alternate drawings of the same symbol

## D_HSMS-2808
designator U?, comment HSMS-2808
footprint SOT143B
pins: 1, 2, 3, 4
2 alternate drawings of the same symbol

## D_LL4148
designator D?, comment LL4148
Diode
footprint SOD80
pins: A, K
2 alternate drawings of the same symbol

## D_LL4148_0805
designator D?, comment LL4148-0805
Diode  150mA, 100V, 4ns, 0805 (Maritex)
footprint D_0805
pins: A, K
2 alternate drawings of the same symbol

## D_LS101A
designator D?, comment LS101A
Schottky Diode
footprint SOD80
pins: A, K
2 alternate drawings of the same symbol

## D_MRA4003T3
designator D4, comment MRA4003T3
schottky 1A/300V
footprint SS1H9 (MELF Diode, 2-Leads, Body 5.3x2.7mm, IPC Medium Density)
pins: 1, 2

## D_S3B-LF
designator D?, comment S3B-LF
3A,100V diode (Maritex)
footprint DO-214AB/SMC
pins: A, K

## D_SHOTTKY_DOUBLE
designator D?
footprint TO-220-3S
footprint TO220
pins: 1 A, 2 K, 2 K, 3 A
2 alternate drawings of the same symbol

## D_shottky_MBRS320
designator D?, comment MBRS320
footprint MBRS320
pins: A, K
2 alternate drawings of the same symbol

## D_shottky_SS14_18
designator D?, comment SS14_18
shottky diode (Maritex)
footprint DO-214AC/SMA
pins: A, K

## D_SK26
designator D?, comment SK26
2A shottky diode (Maritex)
footprint DO-214AA/SMB (diode (Maritex))
pins: A, K
2 alternate drawings of the same symbol

## D_SK36
designator D?, comment SK36
3A,60V, Shottky diode (Maritex)
footprint DO-214AB/SMC
pins: A, K

## D_SM4007
designator D?, comment SM4007
1A/1000V Rect Diode
footprint MELF
pins: A, K
2 alternate drawings of the same symbol

## D_SM4936
designator D?, comment SM4936
1A,400V diode (Maritex)
footprint DO-213AB
pins: A, K

## D_SM5819
designator D?, comment SM5819
1A,40V shottky diode (Maritex)
footprint DO-213AB
pins: A, K

## D_SRD
designator D?
step recovery diode
footprint SRD
pins: A, K
2 alternate drawings of the same symbol

## D_TRANSIL_1.5KE_1
designator D?, comment 1.5KE15CA
transil 1500W
footprint DO-201
pins: A, K

## D_TRANSIL_1.5KE_single
designator D?, comment 1.5KE56A
transil 1500W
footprint DO-201
pins: A, K

## D_TRANSIL_SMD_0.6KW
designator D?, comment P6SMB15CA
transil 600W
footprint DO-214AA/SMB
pins: A, K

## D_TRANSIL_SMD_1.5KE
designator D?, comment 1.5SMC33CA
transil 1500W
footprint do-214ab/smc
pins: A, K

## D_TVS_BZA462A
designator U?
Quadruple 4V ESD transient voltage suppressor
footprint SOT23-6
pins: 1, 2, 3, 4, 5, 6

## D_ZENER
designator D?, comment ZSMD 5V1
Zener Diode
footprint SOD80
footprint DIODE0.4
footprint DIODE0.6
pins: A, K
2 alternate drawings of the same symbol

## DAC1220E
designator U?
20-Bit, Low-Power  Digital-to-Analog Converter
footprint R-PDSO-G16
pins: 1 DVdd (power), 2 Xout (out), 3 Xin (in), 4 DGND (power), 5 AVdd (power), 6 nc (power), 7 nc (power), 8 nc (power), 9 C1, 10 C2, 11 Vout (out), 12 Vref (in), 13 AGND (power), 14 ~{CS} (in), 15 SDIO (io), 16 SCLK (in)

## DAC_AD5310BRM
designator U?
footprint uSOIC8
pins: 1 Vdd, 2 nc, 3 nc, 4 Vout, 5 ~{SYNC}, 6 SCLK, 7 DIN, 8 GND
2 alternate drawings of the same symbol

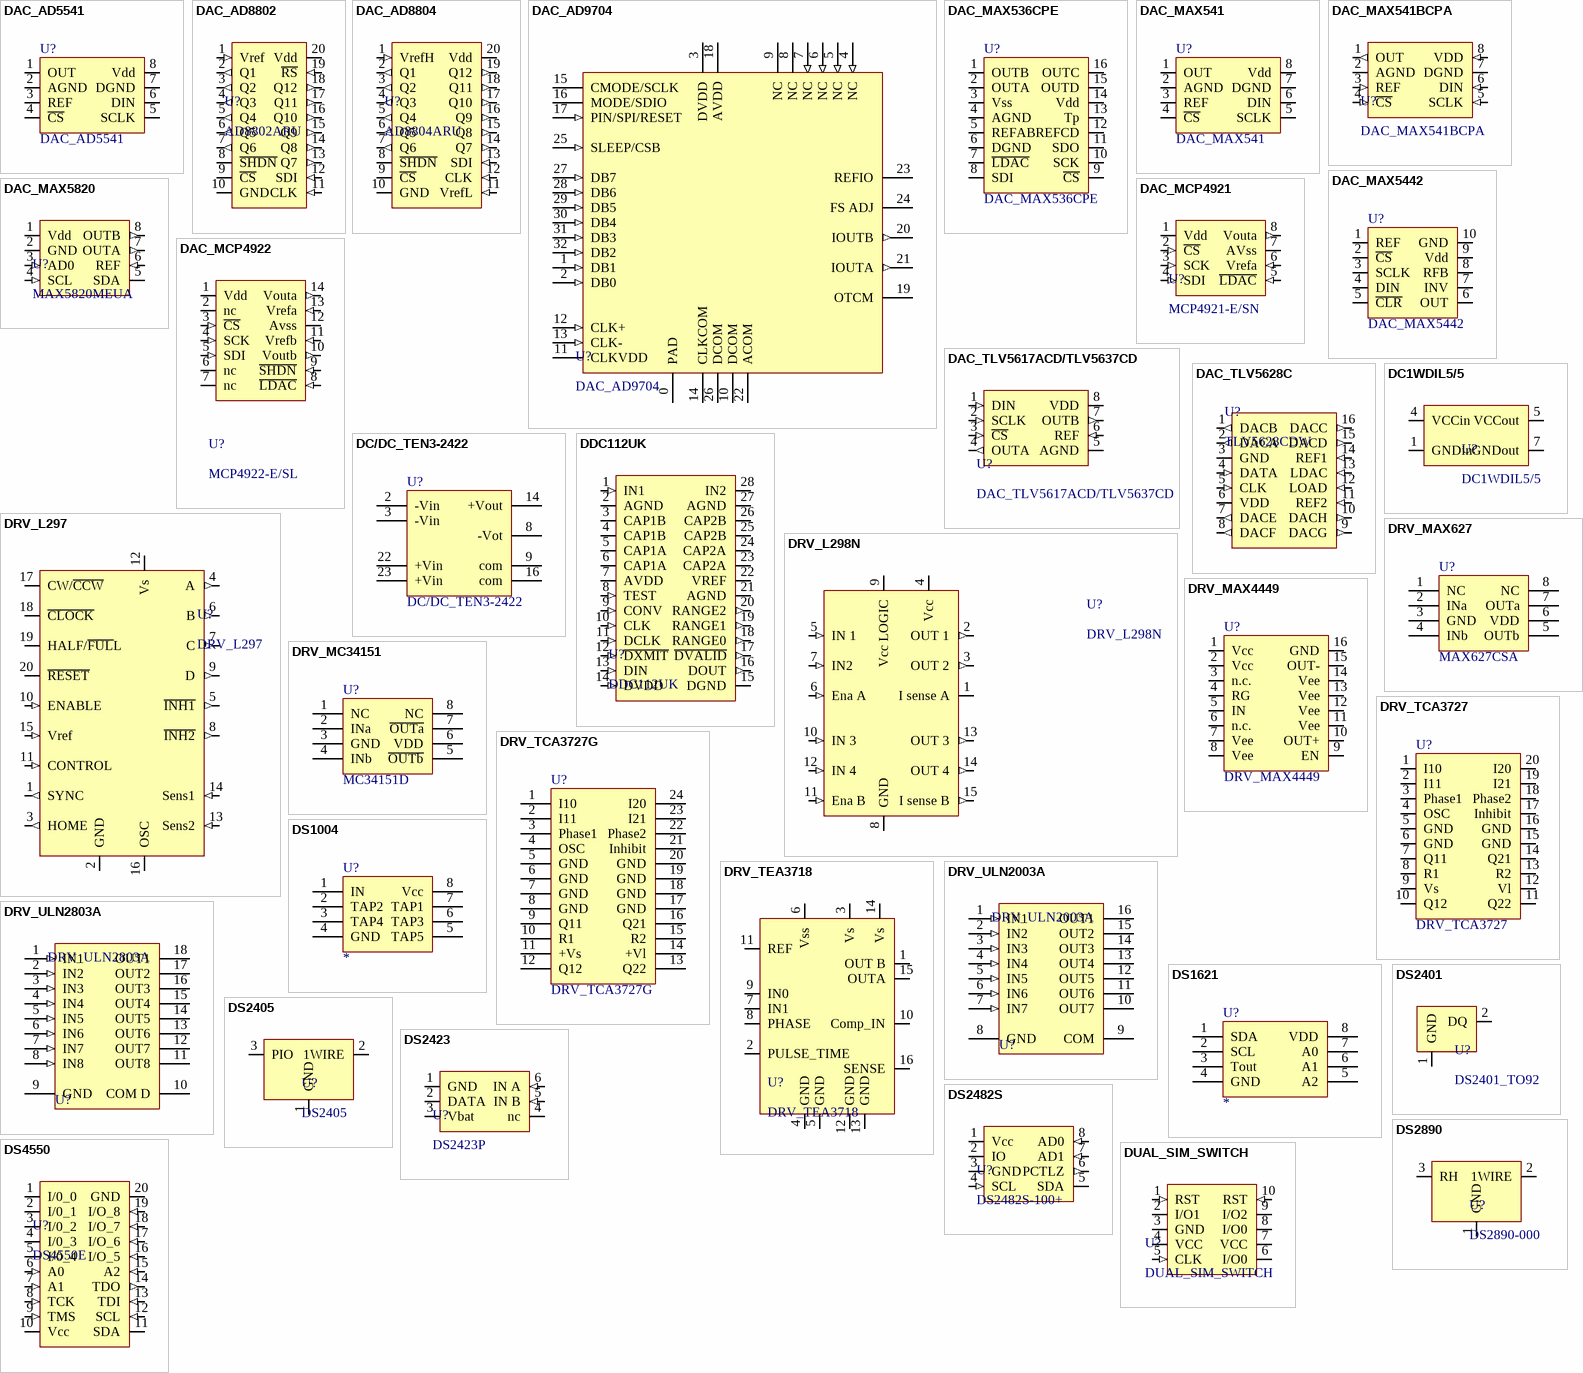
[diagram p18: symbols DAC_AD5541 to DUAL_SIM_SWITCH]

## DAC_AD5541
designator U?
16 bit serial DAC
footprint so-8
pins: 1 OUT, 2 AGND, 3 REF, 4 ~{CS}, 5 SCLK, 6 DIN, 7 DGND, 8 Vdd
2 alternate drawings of the same symbol

## DAC_AD8802
designator U?, comment AD8802ARU
12x 8 bit serial TRIM-DAC
footprint SOIC20
footprint TSSOP-20
pins: 1 Vref (in), 2 Q1 (out), 3 Q2 (out), 4 Q3 (out), 5 Q4 (out), 6 Q5 (out), 7 Q6 (out), 8 ~{SHDN}, 9 ~{CS}, 10 GND (power), 11 CLK (in), 12 SDI (in), 13 Q7 (out), 14 Q8 (out), 15 Q9 (out), 16 Q10 (out), 17 Q11 (out), 18 Q12 (out), 19 ~{RS} (in), 20 Vdd (power)

## DAC_AD8804
designator U?, comment AD8804ARU
12x 8 bit serial TRIM-DAC
footprint SOIC20
footprint TSSOP-20
pins: 1 VrefH (in), 2 Q1 (out), 3 Q2 (out), 4 Q3 (out), 5 Q4 (out), 6 Q5 (out), 7 Q6 (out), 8 ~{SHDN}, 9 ~{CS}, 10 GND (power), 11 VrefL (in), 12 CLK (in), 13 SDI (in), 14 Q7 (out), 15 Q8 (out), 16 Q9 (out), 17 Q10 (out), 18 Q11 (out), 19 Q12 (out), 20 Vdd (power)

## DAC_AD9704
designator U?
8 bit DAC, 150MHz
footprint LFCSP32
pins: 0 PAD, 1 DB1 (in), 2 DB0 (in), 3 DVDD (power), 4 NC (in), 5 NC (in), 6 NC (in), 7 NC (in), 8 NC, 9 NC, 10 DCOM (power), 11 CLKVDD (power), 12 CLK+ (in), 13 CLK- (in), 14 CLKCOM, 15 CMODE/SCLK, 16 MODE/SDIO, 17 PIN/SPI/RESET (in), 18 AVDD (power), 19 OTCM, 20 IOUTB (out), 21 IOUTA (out), 22 ACOM, 23 REFIO, 24 FS ADJ, 25 SLEEP/CSB (in), 26 DCOM (power), 27 DB7 (in), 28 DB6 (in), 29 DB5 (in), 30 DB4 (in), 31 DB3 (in), 32 DB2 (in)

## DAC_MAX536CPE
designator U?
pins: 1 OUTB, 2 OUTA, 3 Vss, 4 AGND, 5 REFAB, 6 DGND, 7 ~{LDAC}, 8 SDI, 9 ~{CS}, 10 SCK, 11 SDO, 12 REFCD, 13 Tp, 14 Vdd, 15 OUTD, 16 OUTC
2 alternate drawings of the same symbol

## DAC_MAX541
designator U?
footprint DIP-8
pins: 1 OUT, 2 AGND, 3 REF, 4 ~{CS}, 5 SCLK, 6 DIN, 7 DGND, 8 Vdd
2 alternate drawings of the same symbol

## DAC_MAX541BCPA
designator U?
16 bit serial DAC
footprint DIP-8
pins: 1 OUT (out), 2 AGND (power), 3 REF (in), 4 ~{CS} (in), 5 SCLK (in), 6 DIN (in), 7 DGND (power), 8 VDD (in)

## DAC_MAX5442
designator U?
footprint UMAX10
pins: 1 REF, 2 ~{CS}, 3 SCLK, 4 DIN, 5 ~{CLR}, 6 OUT, 7 INV, 8 RFB, 9 Vdd, 10 GND
2 alternate drawings of the same symbol

## DAC_MAX5820
designator U?, comment MAX5820MEUA
Dual, 8-Bit, Low-Power, 2-Wire, Serial
footprint uMAX8
pins: 1 Vdd (power), 2 GND (power), 3 AD0 (in), 4 SCL (in), 5 SDA (io), 6 REF (in), 7 OUTA (out), 8 OUTB (out)

## DAC_MCP4921
designator U?, comment MCP4921-E/SN
12-Bit DAC with SPI™ Interface
footprint SO-8
pins: 1 Vdd (power), 2 ~{CS} (in), 3 SCK (in), 4 SDI (in), 5 ~{LDAC} (in), 6 Vrefa (in), 7 AVss (power), 8 Vouta (out)

## DAC_MCP4922
designator U?, comment MCP4922-E/SL
12-Bit dual DAC with SPI™ Interface
footprint SO-14
pins: 1 Vdd (power), 2 nc, 3 ~{CS} (in), 4 SCK (in), 5 SDI (in), 6 nc, 7 nc, 8 ~{LDAC} (in), 9 ~{SHDN} (in), 10 Voutb (out), 11 Vrefb (in), 12 Avss (power), 13 Vrefa (in), 14 Vouta (out)

## DAC_TLV5617ACD/TLV5637CD
designator U?
2.7-V TO 5.5-V LOW-POWER DUAL 10-BIT DIGITAL-TO-ANALOG
footprint so-8
pins: 1 DIN (in), 2 SCLK (in), 3 ~{CS} (in), 4 OUTA (out), 5 AGND (power), 6 REF (in), 7 OUTB (out), 8 VDD (power)

## DAC_TLV5628C
designator U?, comment TLV5628CDW
8-Bit, 10 us Octal DAC
footprint SOIC16
pins: 1 DACB (out), 2 DACA (out), 3 GND (power), 4 DATA (in), 5 CLK (in), 6 VDD (power), 7 DACE (out), 8 DACF (out), 9 DACG (out), 10 DACH (out), 11 REF2 (in), 12 LOAD (in), 13 LDAC (in), 14 REF1 (in), 15 DACD (out), 16 DACC (out)

## DC1WDIL5/5
designator U?
5V/5V isolated 1W DC/DC converter (TME)
footprint DC1WDIL5/5
pins: 1 GNDin (power), 4 VCCin (power), 5 VCCout (power), 7 GNDout (power)

## DC/DC_TEN3-2422
designator U?
DC/DC converter ELFA
footprint ten3-2422f
pins: 2 -Vin (power), 3 -Vin (power), 8 -Vot (power), 9 com (power), 14 +Vout (power), 16 com (power), 22 +Vin (power), 23 +Vin (power)
2 alternate drawings of the same symbol

## DDC112UK
designator U?
footprint SOIC-28
pins: 1 IN1 (in), 2 AGND (power), 3 CAP1B, 4 CAP1B, 5 CAP1A, 6 CAP1A, 7 AVDD (power), 8 TEST (in), 9 CONV (in), 10 CLK (in), 11 DCLK (in), 12 ~{DXMIT} (in), 13 DIN (in), 14 DVDD (in), 15 DGND (power), 16 DOUT (out), 17 ~{DVALID} (out), 18 RANGE0 (out), 19 RANGE1 (out), 20 RANGE2 (out), 21 AGND (power), 22 VREF (power), 23 CAP2A (power), 24 CAP2A (power), 25 CAP2B (power), 26 CAP2B (power), 27 AGND (power), 28 IN2 (power)

## DRV_L297
designator U?
footprint SOL-20
footprint DIP-20
pins: 1 SYNC (out), 2 GND (power), 3 HOME (out), 4 A (out), 5 ~{INH1} (out), 6 B (out), 7 C (out), 8 ~{INH2} (out), 9 D (out), 10 ENABLE (in), 11 CONTROL (in), 12 Vs (power), 13 Sens2 (in), 14 Sens1 (in), 15 Vref (in), 16 OSC, 17 CW/~{CCW}, 18 ~{CLOCK}, 19 HALF/~{FUL}L, 20 ~{RESET}

## DRV_L298N
designator U?
DUAL FULL-BRIDGE DRIVER
footprint Multiwatt15V
pins: 1 I sense A, 2 OUT 1 (out), 3 OUT 2 (out), 4 Vcc (power), 5 IN 1 (in), 6 Ena A (in), 7 IN2 (in), 8 GND (power), 9 Vcc LOGIC (power), 10 IN 3 (in), 11 Ena B (in), 12 IN 4 (in), 13 OUT 3 (out), 14 OUT 4 (out), 15 I sense B (out)

## DRV_MAX627
designator U?, comment MAX627CSA
MOSFET Driver
footprint SO-8
pins: 1 NC, 2 INa, 3 GND, 4 INb, 5 OUTb, 6 VDD, 7 OUTa, 8 NC
2 alternate drawings of the same symbol

## DRV_MAX4449
designator U?
footprint NSO-16
pins: 1 Vcc, 2 Vcc, 3 n.c., 4 RG, 5 IN, 6 n.c., 7 Vee, 8 Vee, 9 EN, 10 OUT+, 11 Vee, 12 Vee, 13 Vee, 14 Vee, 15 OUT-, 16 GND
2 alternate drawings of the same symbol

## DRV_MC34151
designator U?, comment MC34151D
MOSFET Driver (TME)
footprint SO-8
pins: 1 NC, 2 INa, 3 GND, 4 INb, 5 ~{OUTb}, 6 VDD, 7 ~{OUTa}, 8 NC
2 alternate drawings of the same symbol

## DRV_TCA3727
designator U?
footprint DIP20
pins: 1 I10, 2 I11, 3 Phase1, 4 OSC, 5 GND, 6 GND, 7 Q11, 8 R1, 9 Vs, 10 Q12, 11 Q22, 12 Vl, 13 R2, 14 Q21, 15 GND, 16 GND, 17 Inhibit, 18 Phase2, 19 I21, 20 I20
2 alternate drawings of the same symbol

## DRV_TCA3727G
designator U?
stepper motor controller
footprint P-DSO-24-3
pins: 1 I10, 2 I11, 3 Phase1, 4 OSC, 5 GND, 6 GND, 7 GND, 8 GND, 9 Q11, 10 R1, 11 +Vs, 12 Q12, 13 Q22, 14 +Vl, 15 R2, 16 Q21, 17 GND, 18 GND, 19 GND, 20 GND, 21 Inhibit, 22 Phase2, 23 I21, 24 I20
2 alternate drawings of the same symbol

## DRV_TEA3718
designator U?
footprint DIP-16
pins: 1 OUT B, 2 PULSE_TIME, 3 Vs, 4 GND, 5 GND, 6 Vss, 7 IN1, 8 PHASE, 9 IN0, 10 Comp_IN, 11 REF, 12 GND, 13 GND, 14 Vs, 15 OUTA, 16 SENSE

## DRV_ULN2003A
designator U?
High-Voltage, High-Current Darlington Array; Package Information: Latest Revision: 1998; Code - JEDEC: MS-001-BB; Published: 13-Oct-2000; Revision: 17-Jul-2002: Re-released for DXP Platform.; Datasheet: Latest Revision: 1998; Package Reference: A16; Publisher: Altium Limited
footprint DIP-16
footprint So-16
pins: 1 IN1 (in), 2 IN2 (in), 3 IN3 (in), 4 IN4 (in), 5 IN5 (in), 6 IN6 (in), 7 IN7 (in), 8 GND (power), 9 COM, 10 OUT7 (oc), 11 OUT6 (oc), 12 OUT5 (oc), 13 OUT4 (oc), 14 OUT3 (oc), 15 OUT2 (oc), 16 OUT1 (oc)

## DRV_ULN2803A
designator U?
High-Voltage, High-Current Darlington Array; Package Information: Latest Revision: 1999; Published: 13-Oct-2000; Revision: 17-Jul-2002: Re-released for DXP Platform.; Datasheet: Latest Revision: 1999; Package Reference: A18; Publisher: Altium Limited
footprint SOL-18
pins: 1 IN1 (in), 2 IN2 (in), 3 IN3 (in), 4 IN4 (in), 5 IN5 (in), 6 IN6 (in), 7 IN7 (in), 8 IN8 (in), 9 GND (power), 10 COM D, 11 OUT8 (oc), 12 OUT7 (oc), 13 OUT6 (oc), 14 OUT5 (oc), 15 OUT4 (oc), 16 OUT3 (oc), 17 OUT2 (oc), 18 OUT1 (oc)

## DS1004
designator U?
pins: 1 IN, 2 TAP2, 3 TAP4, 4 GND, 5 TAP5, 6 TAP3, 7 TAP1, 8 Vcc
2 alternate drawings of the same symbol

## DS1621
designator U?
footprint SO-8
pins: 1 SDA, 2 SCL, 3 Tout, 4 GND, 5 A2, 6 A1, 7 A0, 8 VDD
2 alternate drawings of the same symbol

## DS2401
designator U?, comment DS2401_TO92
footprint TO-92inv
pins: 1 GND (power), 2 DQ (io)

## DS2405
designator U?
footprint TO-92inv
pins: 1 GND (power), 2 1WIRE (io), 3 PIO

## DS2423
designator U?, comment DS2423P
4kbit 1-Wire RAM with Counter
footprint TSOC6
pins: 1 GND (power), 2 DATA (io), 3 Vbat (power), 4 nc, 5 IN B (in), 6 IN A (in)

## DS2482S
designator U?, comment DS2482S-100+
footprint SO-8
pins: 1 Vcc (power), 2 IO (io), 3 GND (power), 4 SCL (in), 5 SDA (io), 6 PCTLZ (out), 7 AD1 (in), 8 AD0 (in)

## DS2890
designator U?, comment DS2890-000
footprint TO-92inv
pins: 1 GND (power), 2 1WIRE (io), 3 RH

## DS4550
designator U?, comment DS4550E
footprint TSSOP-20
pins: 1 I/0_0 (io), 2 I/0_1 (io), 3 I/0_2 (io), 4 I/0_3 (io), 5 I/0_4 (io), 6 A0 (in), 7 A1 (in), 8 TCK (in), 9 TMS (in), 10 Vcc (power), 11 SDA (io), 12 SCL (in), 13 TDI (in), 14 TDO (out), 15 A2 (in), 16 I/O_5 (in), 17 I/O_6 (in), 18 I/O_7 (in), 19 I/O_8 (in), 20 GND (power)

## DUAL_SIM_SWITCH
designator U?
footprint TSOP10 (Footprint not found)
pins: 1 RST (in), 2 I/O1 (io), 3 GND (power), 4 VCC (power), 5 CLK (in), 6 I/O0 (io), 7 VCC (power), 8 I/O0 (io), 9 I/O2 (io), 10 RST (in)

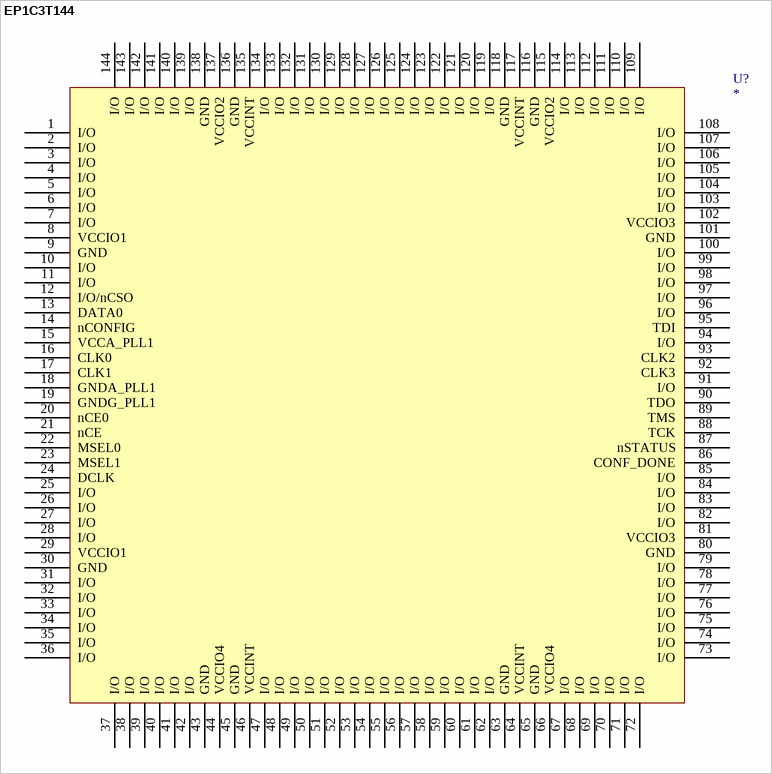
[diagram p19: symbol EP1C3T144]

## EP1C3T144
designator U?
Cyclone FPGA
footprint TQFP144
pins: 1 I/O, 2 I/O, 3 I/O, 4 I/O, 5 I/O, 6 I/O, 7 I/O, 8 VCCIO1, 9 GND, 10 I/O, 11 I/O, 12 I/O/nCSO, 13 DATA0, 14 nCONFIG, 15 VCCA_PLL1, 16 CLK0, 17 CLK1, 18 GNDA_PLL1, 19 GNDG_PLL1, 20 nCE0, 21 nCE, 22 MSEL0, 23 MSEL1, 24 DCLK, 25 I/O, 26 I/O, 27 I/O, 28 I/O, 29 VCCIO1, 30 GND, 31 I/O, 32 I/O, 33 I/O, 34 I/O, 35 I/O, 36 I/O, 37 I/O, 38 I/O, 39 I/O, 40 I/O, 41 I/O, 42 I/O, 43 GND, 44 VCCIO4, 45 GND, 46 VCCINT, 47 I/O, 48 I/O, 49 I/O, 50 I/O, 51 I/O, 52 I/O, 53 I/O, 54 I/O, 55 I/O, 56 I/O, 57 I/O, 58 I/O, 59 I/O, 60 I/O, 61 I/O, 62 I/O, 63 GND, 64 VCCINT, 65 GND, 66 VCCIO4, 67 I/O, 68 I/O, 69 I/O, 70 I/O, 71 I/O, 72 I/O, 73 I/O, 74 I/O, 75 I/O, 76 I/O, 77 I/O, 78 I/O, 79 I/O, 80 GND, 81 VCCIO3, 82 I/O, 83 I/O, 84 I/O, 85 I/O, 86 CONF_DONE, 87 nSTATUS, 88 TCK, 89 TMS, 90 TDO, 91 I/O, 92 CLK3, 93 CLK2, 94 I/O, 95 TDI, 96 I/O, 97 I/O, 98 I/O, 99 I/O, 100 I/O, 101 GND, 102 VCCIO3, 103 I/O, 104 I/O, 105 I/O, 106 I/O, 107 I/O, 108 I/O, 109 I/O, 110 I/O, 111 I/O, 112 I/O, 113 I/O, 114 I/O, 115 VCCIO2, 116 GND, 117 VCCINT, 118 GND, 119 I/O, 120 I/O, 121 I/O, 122 I/O, 123 I/O, 124 I/O, 125 I/O, 126 I/O, 127 I/O, 128 I/O, 129 I/O, 130 I/O, 131 I/O, 132 I/O, 133 I/O, 134 I/O, 135 VCCINT, 136 GND, 137 VCCIO2, 138 GND, 139 I/O, 140 I/O, 141 I/O, 142 I/O, 143 I/O, 144 I/O
2 alternate drawings of the same symbol

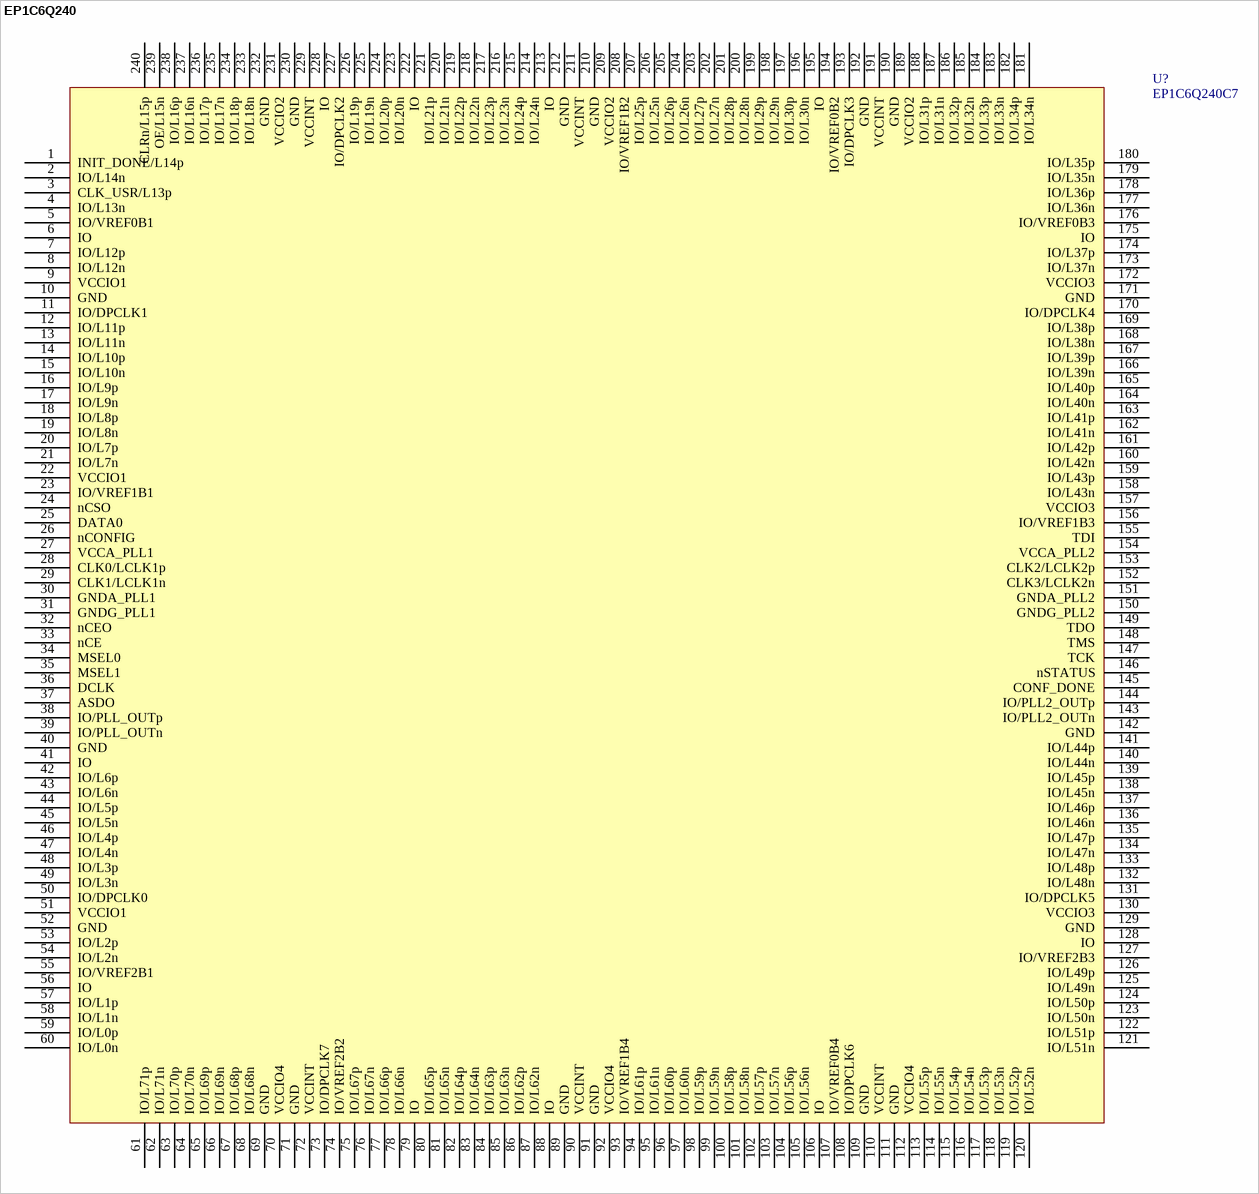
[diagram p20: symbol EP1C6Q240]

## EP1C6Q240
designator U?, comment EP1C6Q240C7
Cyclone FPGA
footprint PQFP240
pins: 1 INIT_DONE/L14p, 2 IO/L14n, 3 CLK_USR/L13p, 4 IO/L13n, 5 IO/VREF0B1, 6 IO, 7 IO/L12p, 8 IO/L12n, 9 VCCIO1, 10 GND, 11 IO/DPCLK1, 12 IO/L11p, 13 IO/L11n, 14 IO/L10p, 15 IO/L10n, 16 IO/L9p, 17 IO/L9n, 18 IO/L8p, 19 IO/L8n, 20 IO/L7p, 21 IO/L7n, 22 VCCIO1, 23 IO/VREF1B1, 24 nCSO, 25 DATA0, 26 nCONFIG, 27 VCCA_PLL1, 28 CLK0/LCLK1p, 29 CLK1/LCLK1n, 30 GNDA_PLL1, 31 GNDG_PLL1, 32 nCEO, 33 nCE, 34 MSEL0, 35 MSEL1, 36 DCLK, 37 ASDO, 38 IO/PLL_OUTp, 39 IO/PLL_OUTn, 40 GND, 41 IO, 42 IO/L6p, 43 IO/L6n, 44 IO/L5p, 45 IO/L5n, 46 IO/L4p, 47 IO/L4n, 48 IO/L3p, 49 IO/L3n, 50 IO/DPCLK0, 51 VCCIO1, 52 GND, 53 IO/L2p, 54 IO/L2n, 55 IO/VREF2B1, 56 IO, 57 IO/L1p, 58 IO/L1n, 59 IO/L0p, 60 IO/L0n, 61 IO/L71p, 62 IO/L71n, 63 IO/L70p, 64 IO/L70n, 65 IO/L69p, 66 IO/L69n, 67 IO/L68p, 68 IO/L68n, 69 GND, 70 VCCIO4, 71 GND, 72 VCCINT, 73 IO/DPCLK7, 74 IO/VREF2B2, 75 IO/L67p, 76 IO/L67n, 77 IO/L66p, 78 IO/L66n, 79 IO, 80 IO/L65p, 81 IO/L65n, 82 IO/L64p, 83 IO/L64n, 84 IO/L63p, 85 IO/L63n, 86 IO/L62p, 87 IO/L62n, 88 IO, 89 GND, 90 VCCINT, 91 GND, 92 VCCIO4, 93 IO/VREF1B4, 94 IO/L61p, 95 IO/L61n, 96 IO/L60p, 97 IO/L60n, 98 IO/L59p, 99 IO/L59n, 100 IO/L58p, 101 IO/L58n, 102 IO/L57p, 103 IO/L57n, 104 IO/L56p, 105 IO/L56n, 106 IO, 107 IO/VREF0B4, 108 IO/DPCLK6, 109 GND, 110 VCCINT, 111 GND, 112 VCCIO4, 113 IO/L55p, 114 IO/L55n, 115 IO/L54p, 116 IO/L54n, 117 IO/L53p, 118 IO/L53n, 119 IO/L52p, 120 IO/L52n, 121 IO/L51n, 122 IO/L51p, 123 IO/L50n, 124 IO/L50p, 125 IO/L49n, 126 IO/L49p, 127 IO/VREF2B3, 128 IO, 129 GND, 130 VCCIO3, 131 IO/DPCLK5, 132 IO/L48n, 133 IO/L48p, 134 IO/L47n, 135 IO/L47p, 136 IO/L46n, 137 IO/L46p, 138 IO/L45n, 139 IO/L45p, 140 IO/L44n, 141 IO/L44p, 142 GND, 143 IO/PLL2_OUTn, 144 IO/PLL2_OUTp, 145 CONF_DONE, 146 nSTATUS, 147 TCK, 148 TMS, 149 TDO, 150 GNDG_PLL2, 151 GNDA_PLL2, 152 CLK3/LCLK2n, 153 CLK2/LCLK2p, 154 VCCA_PLL2, 155 TDI, 156 IO/VREF1B3, 157 VCCIO3, 158 IO/L43n, 159 IO/L43p, 160 IO/L42n, 161 IO/L42p, 162 IO/L41n, 163 IO/L41p, 164 IO/L40n, 165 IO/L40p, 166 IO/L39n, 167 IO/L39p, 168 IO/L38n, 169 IO/L38p, 170 IO/DPCLK4, 171 GND, 172 VCCIO3, 173 IO/L37n, 174 IO/L37p, 175 IO, 176 IO/VREF0B3, 177 IO/L36n, 178 IO/L36p, 179 IO/L35n, 180 IO/L35p, 181 IO/L34n, 182 IO/L34p, 183 IO/L33n, 184 IO/L33p, 185 IO/L32n, 186 IO/L32p, 187 IO/L31n, 188 IO/L31p, 189 VCCIO2, 190 GND, 191 VCCINT, 192 GND, 193 IO/DPCLK3, 194 IO/VREF0B2, 195 IO, 196 IO/L30n, 197 IO/L30p, 198 IO/L29n, 199 IO/L29p, 200 IO/L28n, 201 IO/L28p, 202 IO/L27n, 203 IO/L27p, 204 IO/L26n, 205 IO/L26p, 206 IO/L25n, 207 IO/L25p, 208 IO/VREF1B2, 209 VCCIO2, 210 GND, 211 VCCINT, 212 GND, 213 IO, 214 IO/L24n, 215 IO/L24p, 216 IO/L23n, 217 IO/L23p, 218 IO/L22n, 219 IO/L22p, 220 IO/L21n, 221 IO/L21p, 222 IO, 223 IO/L20n, 224 IO/L20p, 225 IO/L19n, 226 IO/L19p, 227 IO/DPCLK2, 228 IO, 229 VCCINT, 230 GND, 231 VCCIO2, 232 GND, 233 IO/L18n, 234 IO/L18p, 235 IO/L17n, 236 IO/L17p, 237 IO/L16n, 238 IO/L16p, 239 OE/L15n, 240 CLRn/L15p
2 alternate drawings of the same symbol

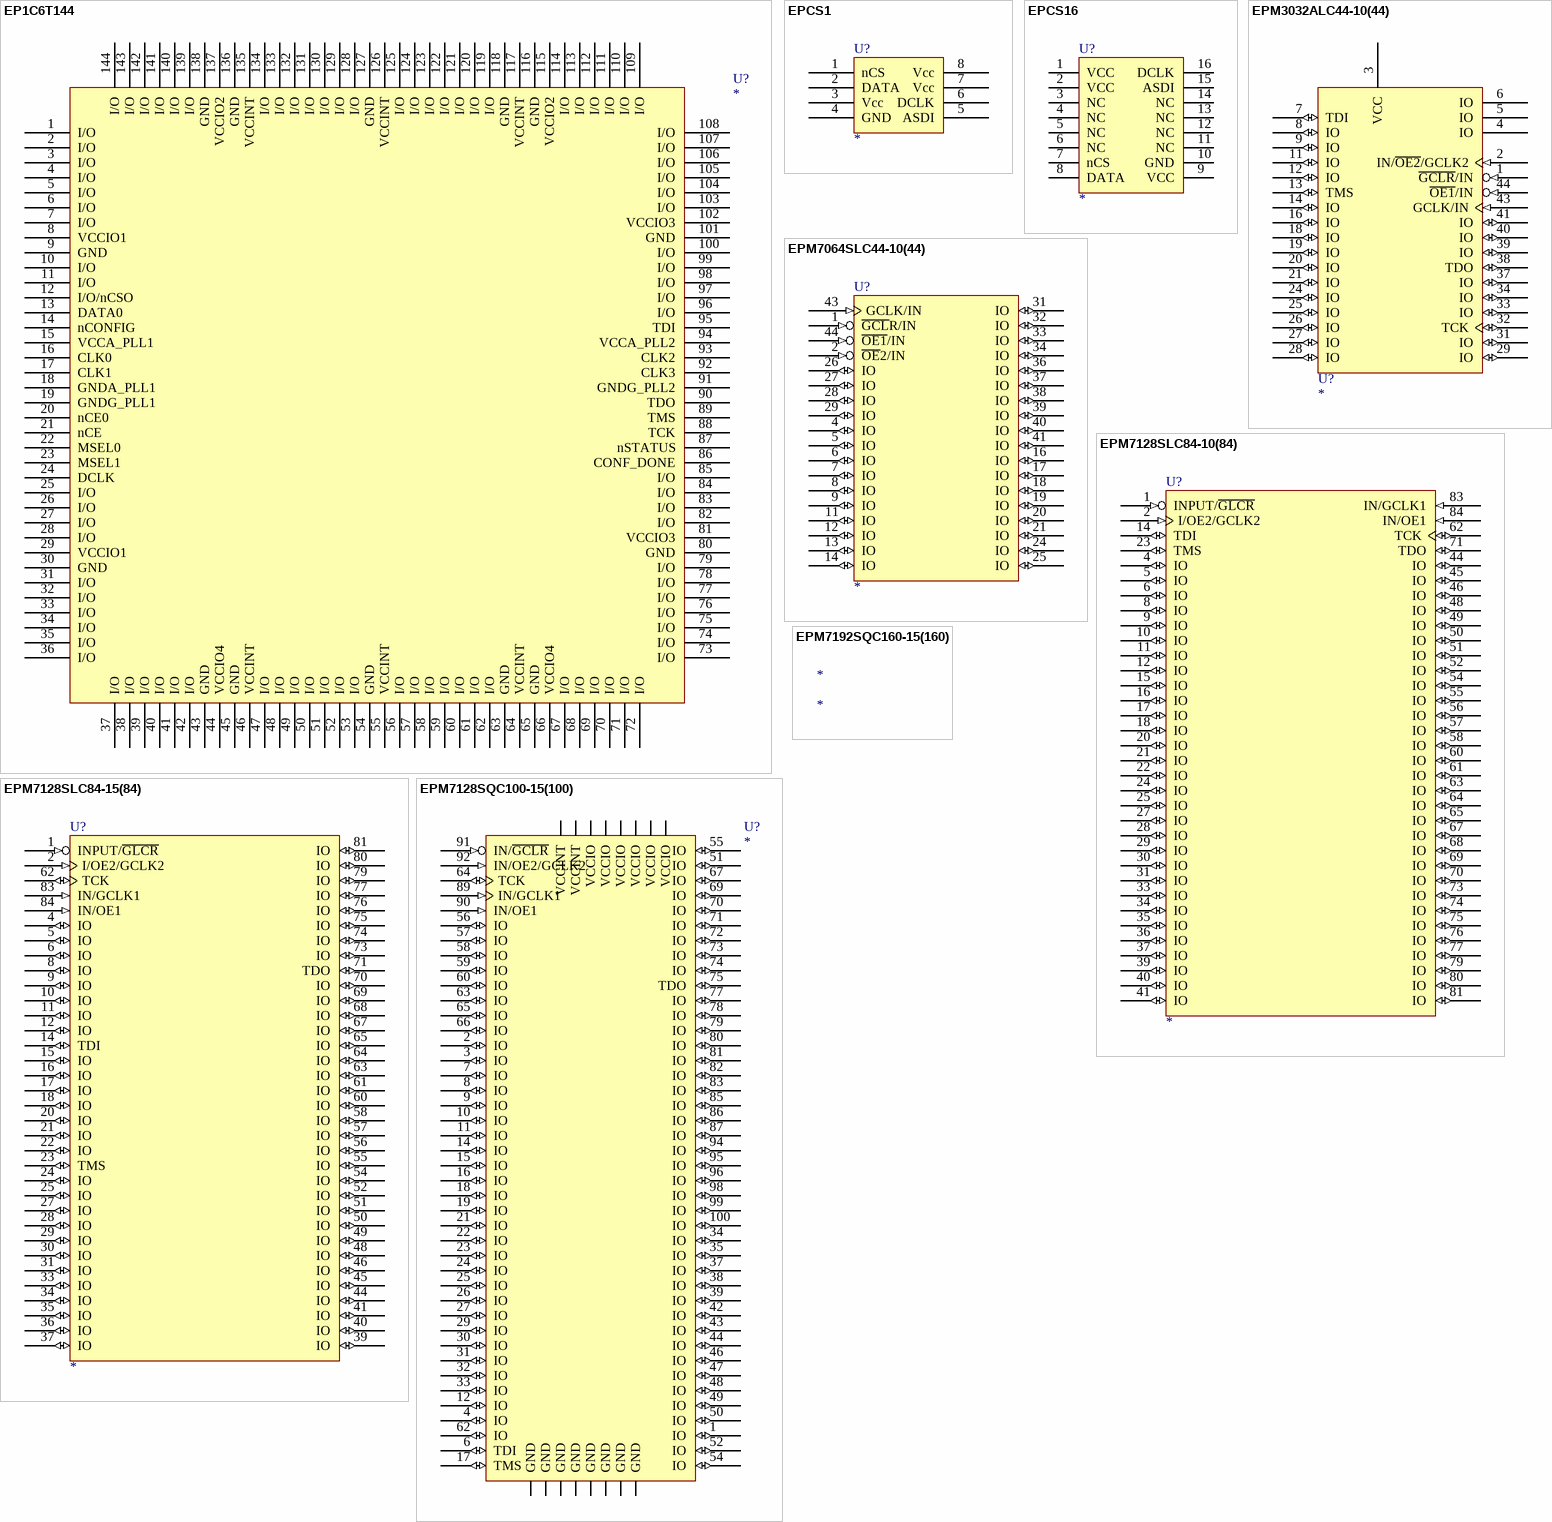
[diagram p21: symbols EP1C6T144 to EPM7192SQC160-15(160)]

## EP1C6T144
designator U?
Cyclone FPGA
footprint TQFP144
pins: 1 I/O, 2 I/O, 3 I/O, 4 I/O, 5 I/O, 6 I/O, 7 I/O, 8 VCCIO1, 9 GND, 10 I/O, 11 I/O, 12 I/O/nCSO, 13 DATA0, 14 nCONFIG, 15 VCCA_PLL1, 16 CLK0, 17 CLK1, 18 GNDA_PLL1, 19 GNDG_PLL1, 20 nCE0, 21 nCE, 22 MSEL0, 23 MSEL1, 24 DCLK, 25 I/O, 26 I/O, 27 I/O, 28 I/O, 29 VCCIO1, 30 GND, 31 I/O, 32 I/O, 33 I/O, 34 I/O, 35 I/O, 36 I/O, 37 I/O, 38 I/O, 39 I/O, 40 I/O, 41 I/O, 42 I/O, 43 GND, 44 VCCIO4, 45 GND, 46 VCCINT, 47 I/O, 48 I/O, 49 I/O, 50 I/O, 51 I/O, 52 I/O, 53 I/O, 54 GND, 55 VCCINT, 56 I/O, 57 I/O, 58 I/O, 59 I/O, 60 I/O, 61 I/O, 62 I/O, 63 GND, 64 VCCINT, 65 GND, 66 VCCIO4, 67 I/O, 68 I/O, 69 I/O, 70 I/O, 71 I/O, 72 I/O, 73 I/O, 74 I/O, 75 I/O, 76 I/O, 77 I/O, 78 I/O, 79 I/O, 80 GND, 81 VCCIO3, 82 I/O, 83 I/O, 84 I/O, 85 I/O, 86 CONF_DONE, 87 nSTATUS, 88 TCK, 89 TMS, 90 TDO, 91 GNDG_PLL2, 92 CLK3, 93 CLK2, 94 VCCA_PLL2, 95 TDI, 96 I/O, 97 I/O, 98 I/O, 99 I/O, 100 I/O, 101 GND, 102 VCCIO3, 103 I/O, 104 I/O, 105 I/O, 106 I/O, 107 I/O, 108 I/O, 109 I/O, 110 I/O, 111 I/O, 112 I/O, 113 I/O, 114 I/O, 115 VCCIO2, 116 GND, 117 VCCINT, 118 GND, 119 I/O, 120 I/O, 121 I/O, 122 I/O, 123 I/O, 124 I/O, 125 I/O, 126 VCCINT, 127 GND, 128 I/O, 129 I/O, 130 I/O, 131 I/O, 132 I/O, 133 I/O, 134 I/O, 135 VCCINT, 136 GND, 137 VCCIO2, 138 GND, 139 I/O, 140 I/O, 141 I/O, 142 I/O, 143 I/O, 144 I/O
2 alternate drawings of the same symbol

## EPCS1
designator U?
FPGA configuration FLASH
footprint SO-8
pins: 1 nCS, 2 DATA, 3 Vcc, 4 GND, 5 ASDI, 6 DCLK, 7 Vcc, 8 Vcc
2 alternate drawings of the same symbol

## EPCS16
designator U?
footprint SOIC16
pins: 1 VCC (power), 2 VCC (power), 3 NC (power), 4 NC (power), 5 NC (power), 6 NC (power), 7 nCS (power), 8 DATA (power), 9 VCC (power), 10 GND (power), 11 NC (power), 12 NC (power), 13 NC (power), 14 NC (power), 15 ASDI (power), 16 DCLK (power)
2 alternate drawings of the same symbol

## EPM3032ALC44-10(44)
designator U?
MAX 7000 Programmable Logic Device Family
footprint PLCC-44
pins: 1 ~{GCLR}/IN (in), 2 IN/~{OE2}/GCLK2 (in), 3 VCC, 4 IO, 5 IO, 6 IO, 7 TDI (io), 8 IO (io), 9 IO (io), 11 IO (io), 12 IO (io), 13 TMS (io), 14 IO (io), 16 IO (io), 18 IO (io), 19 IO (io), 20 IO (io), 21 IO (io), 24 IO (io), 25 IO (io), 26 IO (io), 27 IO (io), 28 IO (io), 29 IO (io), 31 IO (io), 32 TCK (io), 33 IO (io), 34 IO (io), 37 IO (io), 38 TDO (io), 39 IO (io), 40 IO (io), 41 IO (io), 43 GCLK/IN (in), 44 ~{OE1}/IN (in)
2 alternate drawings of the same symbol

## EPM7064SLC44-10(44)
designator U?
MAX 7000 Programmable Logic Device Family
footprint PLCC-44
pins: 1 ~{GCL}R/IN (in), 2 ~{OE}2/IN (in), 4 IO (io), 5 IO (io), 6 IO (io), 7 IO (io), 8 IO (io), 9 IO (io), 11 IO (io), 12 IO (io), 13 IO (io), 14 IO (io), 16 IO (io), 17 IO (io), 18 IO (io), 19 IO (io), 20 IO (io), 21 IO (io), 24 IO (io), 25 IO (io), 26 IO (io), 27 IO (io), 28 IO (io), 29 IO (io), 31 IO (io), 32 IO (io), 33 IO (io), 34 IO (io), 36 IO (io), 37 IO (io), 38 IO (io), 39 IO (io), 40 IO (io), 41 IO (io), 43 GCLK/IN (in), 44 ~{OE1}/IN (in)
2 alternate drawings of the same symbol

## EPM7128SLC84-10(84)
designator U?
MAX 7000 Programmable Logic Device Family
footprint PLCC-84
pins: 1 INPUT/~{GLCR} (in), 2 I/OE2/GCLK2 (in), 4 IO (io), 5 IO (io), 6 IO (io), 8 IO (io), 9 IO (io), 10 IO (io), 11 IO (io), 12 IO (io), 14 TDI (io), 15 IO (io), 16 IO (io), 17 IO (io), 18 IO (io), 20 IO (io), 21 IO (io), 22 IO (io), 23 TMS (io), 24 IO (io), 25 IO (io), 27 IO (io), 28 IO (io), 29 IO (io), 30 IO (io), 31 IO (io), 33 IO (io), 34 IO (io), 35 IO (io), 36 IO (io), 37 IO (io), 39 IO (io), 40 IO (io), 41 IO (io), 44 IO (io), 45 IO (io), 46 IO (io), 48 IO (io), 49 IO (io), 50 IO (io), 51 IO (io), 52 IO (io), 54 IO (io), 55 IO (io), 56 IO (io), 57 IO (io), 58 IO (io), 60 IO (io), 61 IO (io), 62 TCK (io), 63 IO (io), 64 IO (io), 65 IO (io), 67 IO (io), 68 IO (io), 69 IO (io), 70 IO (io), 71 TDO (io), 73 IO (io), 74 IO (io), 75 IO (io), 76 IO (io), 77 IO (io), 79 IO (io), 80 IO (io), 81 IO (io), 83 IN/GCLK1 (in), 84 IN/OE1 (in)
2 alternate drawings of the same symbol

## EPM7128SLC84-15(84)
designator U?
MAX 7000 Programmable Logic Device Family
footprint PLCC-84
pins: 1 INPUT/~{GLCR} (in), 2 I/OE2/GCLK2 (in), 4 IO (io), 5 IO (io), 6 IO (io), 8 IO (io), 9 IO (io), 10 IO (io), 11 IO (io), 12 IO (io), 14 TDI (io), 15 IO (io), 16 IO (io), 17 IO (io), 18 IO (io), 20 IO (io), 21 IO (io), 22 IO (io), 23 TMS (io), 24 IO (io), 25 IO (io), 27 IO (io), 28 IO (io), 29 IO (io), 30 IO (io), 31 IO (io), 33 IO (io), 34 IO (io), 35 IO (io), 36 IO (io), 37 IO (io), 39 IO (io), 40 IO (io), 41 IO (io), 44 IO (io), 45 IO (io), 46 IO (io), 48 IO (io), 49 IO (io), 50 IO (io), 51 IO (io), 52 IO (io), 54 IO (io), 55 IO (io), 56 IO (io), 57 IO (io), 58 IO (io), 60 IO (io), 61 IO (io), 62 TCK (io), 63 IO (io), 64 IO (io), 65 IO (io), 67 IO (io), 68 IO (io), 69 IO (io), 70 IO (io), 71 TDO (io), 73 IO (io), 74 IO (io), 75 IO (io), 76 IO (io), 77 IO (io), 79 IO (io), 80 IO (io), 81 IO (io), 83 IN/GCLK1 (in), 84 IN/OE1 (in)
2 alternate drawings of the same symbol

## EPM7128SQC100-15(100)
designator U?
MAX 7000 Programmable Logic Device Family
footprint QFP14X20-100(N)
pins: 1 IO (io), 2 IO (io), 3 IO (io), 4 IO (io), 5 VCCIO (power), 6 TDI (io), 7 IO (io), 8 IO (io), 9 IO (io), 10 IO (io), 11 IO (io), 12 IO (io), 13 GND (power), 14 IO (io), 15 IO (io), 16 IO (io), 17 TMS (io), 18 IO (io), 19 IO (io), 20 VCCIO (power), 21 IO (io), 22 IO (io), 23 IO (io), 24 IO (io), 25 IO (io), 26 IO (io), 27 IO (io), 28 GND (power), 29 IO (io), 30 IO (io), 31 IO (io), 32 IO (io), 33 IO (io), 34 IO (io), 35 IO (io), 36 VCCIO (power), 37 IO (io), 38 IO (io), 39 IO (io), 40 GND (power), 41 VCCINT (power), 42 IO (io), 43 IO (io), 44 IO (io), 45 GND (power), 46 IO (io), 47 IO (io), 48 IO (io), 49 IO (io), 50 IO (io), 51 IO (io), 52 IO (io), 53 VCCIO (power), 54 IO (io), 55 IO (io), 56 IO (io), 57 IO (io), 58 IO (io), 59 IO (io), 60 IO (io), 61 GND (power), 62 IO (io), 63 IO (io), 64 TCK (io), 65 IO (io), 66 IO (io), 67 IO (io), 68 VCCIO (power), 69 IO (io), 70 IO (io), 71 IO (io), 72 IO (io), 73 IO (io), 74 IO (io), 75 TDO (io), 76 GND (power), 77 IO (io), 78 IO (io), 79 IO (io), 80 IO (io), 81 IO (io), 82 IO (io), 83 IO (io), 84 VCCIO (power), 85 IO (io), 86 IO (io), 87 IO (io), 88 GND (power), 89 IN/GCLK1 (in), 90 IN/OE1 (in), 91 IN/~{GCLR} (in), 92 IN/OE2/GCLK2 (in), 93 VCCINT (power), 94 IO (io), 95 IO (io), 96 IO (io), 97 GND (power), 98 IO (io), 99 IO (io), 100 IO (io)
2 alternate drawings of the same symbol

## EPM7192SQC160-15(160)
designator *
MAX 7000 Programmabe Logic Device Family
2 alternate drawings of the same symbol

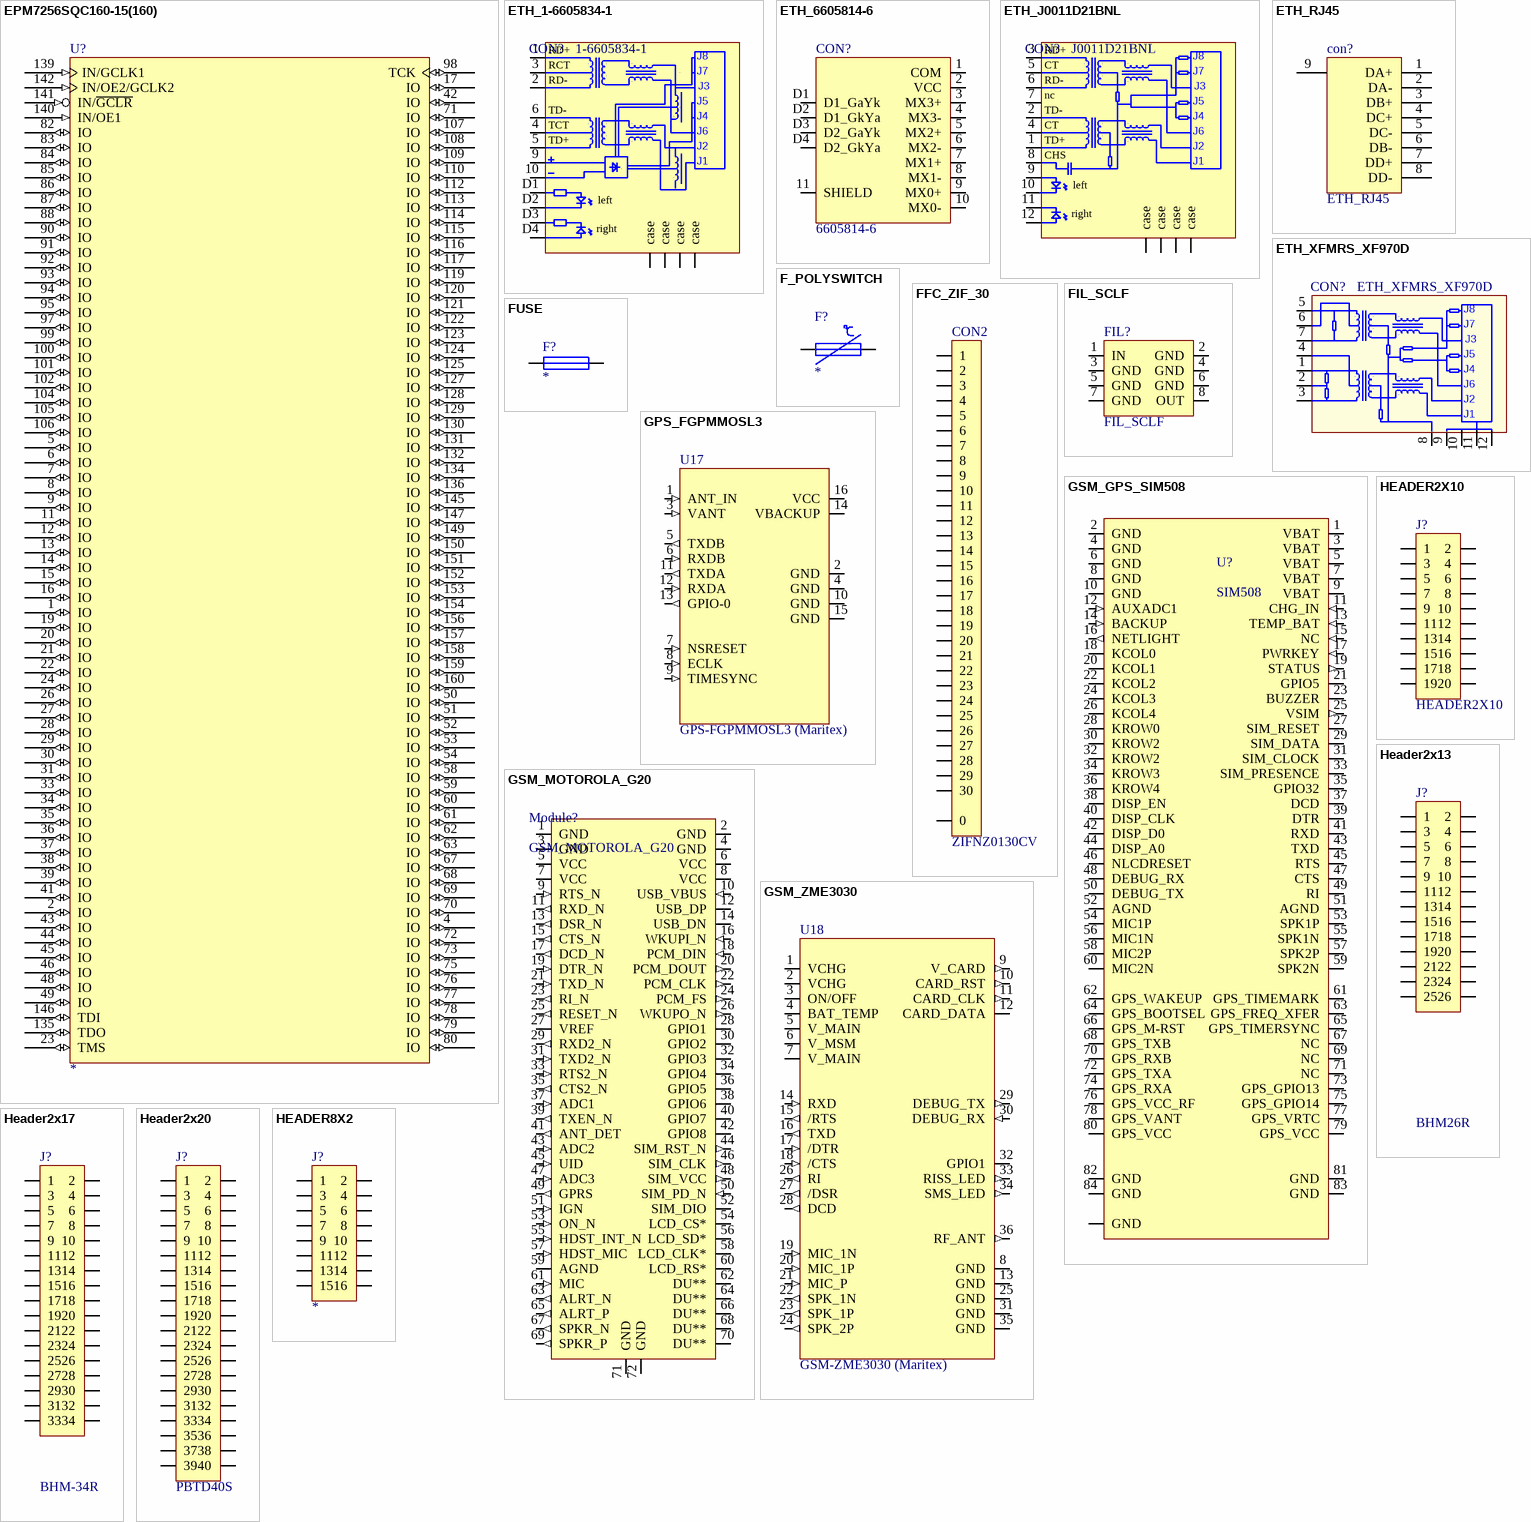
[diagram p22: symbols EPM7256SQC160-15(160) to HEADER8X2]